# Altium integrated library Altera MAX 7000B.IntLib: 128 symbols (part 8 of 9)
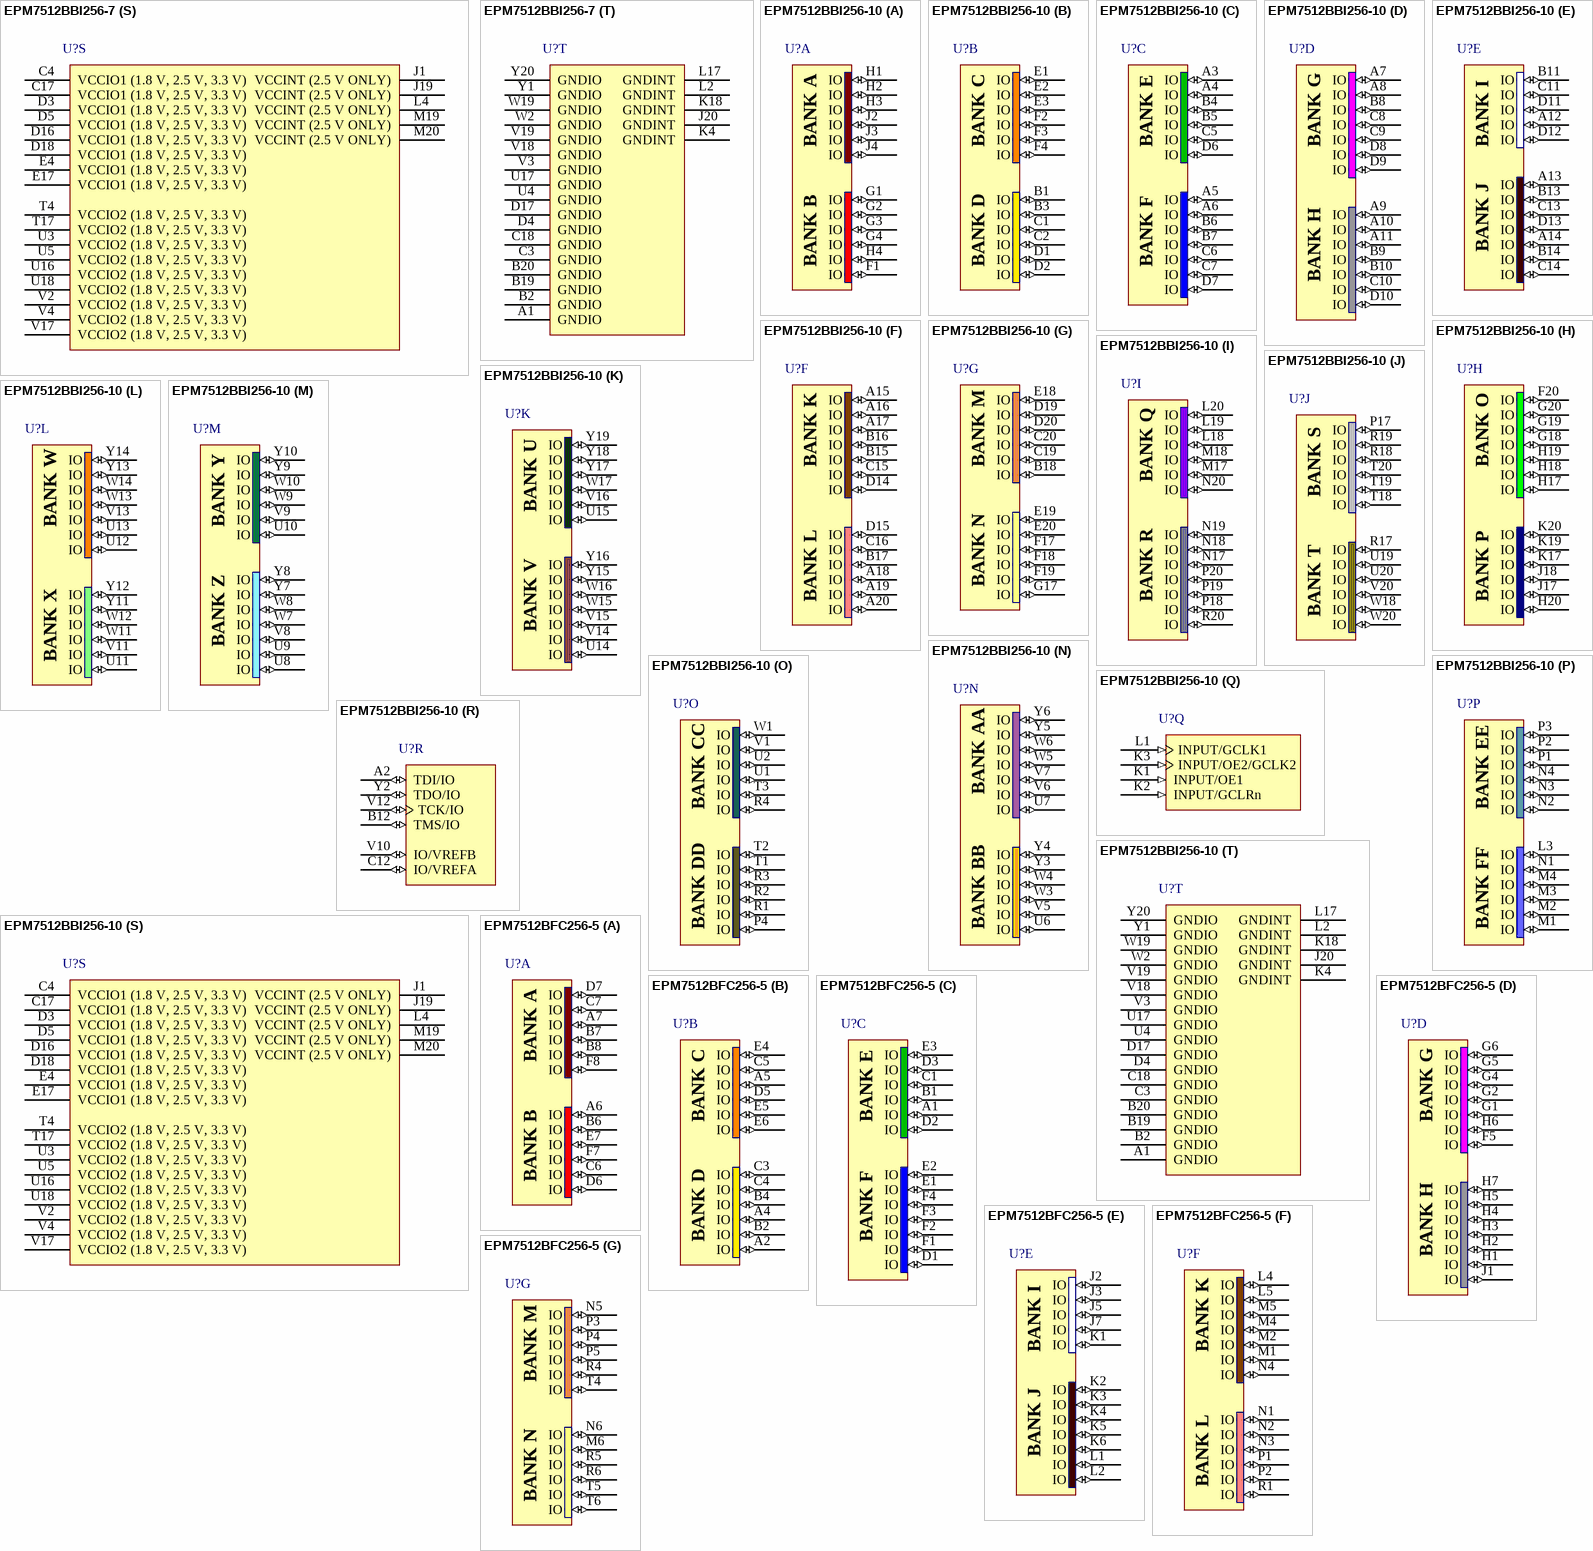
[diagram p53: symbols EPM7512BBI256-7 to EPM7512BFC256-5]

## EPM7512BBI256-10
designator U?
Max 7000B 2.5V CPLD, 512 Macrocells, 256-Pin BGA, Speed Grade 10, Industrial Grade; ComponentAvailability: Discontinued 2004, Compatible Substitute EPM7512BFI256-7; Published: 13-Apr-2006; DatasheetVersion: ver3.4, Sep-2003; PackageVersion: ver14.3, Jul-2006; PackageReference: BGA256; Publisher: Altium Limited; PackageDescription: 256-Ball Plastic Ball Grid Array (BGA256) - Option 2; Code_JEDEC: MS-034-BAL-2; ComponentLink1Description: Manufacturer Link; ComponentLink1URL: http://www.altera.com/products/devices/max7k/m7k-index.html; ComponentLink2Description: Datasheet; ComponentLink2URL: http://www.altera.com/literature/ds/m7000b.pdf; ComponentLink3Description: Packaging Specification; ComponentLink3URL: http://www.altera.com/literature/ds/dspkg.pdf; ComponentLink4Description: Discontinuation Notice; ComponentLink4URL: http://www.altera.com/literature/pcn/pdn0203.pdf
footprint BGA256 (BGA, 256-Leads, Body 27x27mm, Pitch 1.27mm)
3D model EPM7512B-BGA256 (256-Ball Plastic Ball Grid Array (BGA256) - Option 2)
signal-integrity model 7kb (MAX 7000B)
part A pins: F1 IO (io), G1 IO (io), G2 IO (io), G3 IO (io), G4 IO (io), H1 IO (io), H2 IO (io), H3 IO (io), H4 IO (io), J2 IO (io), J3 IO (io), J4 IO (io)
part B pins: B1 IO (io), B3 IO (io), C1 IO (io), C2 IO (io), D1 IO (io), D2 IO (io), E1 IO (io), E2 IO (io), E3 IO (io), F2 IO (io), F3 IO (io), F4 IO (io)
part C pins: A3 IO (io), A4 IO (io), A5 IO (io), A6 IO (io), B4 IO (io), B5 IO (io), B6 IO (io), B7 IO (io), C5 IO (io), C6 IO (io), C7 IO (io), D6 IO (io), D7 IO (io)
part D pins: A7 IO (io), A8 IO (io), A9 IO (io), A10 IO (io), A11 IO (io), B8 IO (io), B9 IO (io), B10 IO (io), C8 IO (io), C9 IO (io), C10 IO (io), D8 IO (io), D9 IO (io), D10 IO (io)
part E pins: A12 IO (io), A13 IO (io), A14 IO (io), B11 IO (io), B13 IO (io), B14 IO (io), C11 IO (io), C13 IO (io), C14 IO (io), D11 IO (io), D12 IO (io), D13 IO (io)
part F pins: A15 IO (io), A16 IO (io), A17 IO (io), A18 IO (io), A19 IO (io), A20 IO (io), B15 IO (io), B16 IO (io), B17 IO (io), C15 IO (io), C16 IO (io), D14 IO (io), D15 IO (io)
part G pins: B18 IO (io), C19 IO (io), C20 IO (io), D19 IO (io), D20 IO (io), E18 IO (io), E19 IO (io), E20 IO (io), F17 IO (io), F18 IO (io), F19 IO (io), G17 IO (io)
part H pins: F20 IO (io), G18 IO (io), G19 IO (io), G20 IO (io), H17 IO (io), H18 IO (io), H19 IO (io), H20 IO (io), J17 IO (io), J18 IO (io), K17 IO (io), K19 IO (io), K20 IO (io)
part I pins: L18 IO (io), L19 IO (io), L20 IO (io), M17 IO (io), M18 IO (io), N17 IO (io), N18 IO (io), N19 IO (io), N20 IO (io), P18 IO (io), P19 IO (io), P20 IO (io), R20 IO (io)
part J pins: P17 IO (io), R17 IO (io), R18 IO (io), R19 IO (io), T18 IO (io), T19 IO (io), T20 IO (io), U19 IO (io), U20 IO (io), V20 IO (io), W18 IO (io), W20 IO (io)
part K pins: U14 IO (io), U15 IO (io), V14 IO (io), V15 IO (io), V16 IO (io), W15 IO (io), W16 IO (io), W17 IO (io), Y15 IO (io), Y16 IO (io), Y17 IO (io), Y18 IO (io), Y19 IO (io)
part L pins: U11 IO (io), U12 IO (io), U13 IO (io), V11 IO (io), V13 IO (io), W11 IO (io), W12 IO (io), W13 IO (io), W14 IO (io), Y11 IO (io), Y12 IO (io), Y13 IO (io), Y14 IO (io)
part M pins: U8 IO (io), U9 IO (io), U10 IO (io), V8 IO (io), V9 IO (io), W7 IO (io), W8 IO (io), W9 IO (io), W10 IO (io), Y7 IO (io), Y8 IO (io), Y9 IO (io), Y10 IO (io)
part N pins: U6 IO (io), U7 IO (io), V5 IO (io), V6 IO (io), V7 IO (io), W3 IO (io), W4 IO (io), W5 IO (io), W6 IO (io), Y3 IO (io), Y4 IO (io), Y5 IO (io), Y6 IO (io)
part O pins: P4 IO (io), R1 IO (io), R2 IO (io), R3 IO (io), R4 IO (io), T1 IO (io), T2 IO (io), T3 IO (io), U1 IO (io), U2 IO (io), V1 IO (io), W1 IO (io)
part P pins: L3 IO (io), M1 IO (io), M2 IO (io), M3 IO (io), M4 IO (io), N1 IO (io), N2 IO (io), N3 IO (io), N4 IO (io), P1 IO (io), P2 IO (io), P3 IO (io)
part Q pins: K1 INPUT/OE1 (in), K2 INPUT/GCLRn (in), K3 INPUT/OE2/GCLK2 (in), L1 INPUT/GCLK1 (in)
part R pins: A2 TDI/IO (io), B12 TMS/IO (io), C12 IO/VREFA (io), V10 IO/VREFB (io), V12 TCK/IO (io), Y2 TDO/IO (io)
part S pins: C4 VCCIO1 (1.8 V, 2.5 V, 3.3 V) (power), C17 VCCIO1 (1.8 V, 2.5 V, 3.3 V) (power), D3 VCCIO1 (1.8 V, 2.5 V, 3.3 V) (power), D5 VCCIO1 (1.8 V, 2.5 V, 3.3 V) (power), D16 VCCIO1 (1.8 V, 2.5 V, 3.3 V) (power), D18 VCCIO1 (1.8 V, 2.5 V, 3.3 V) (power), E4 VCCIO1 (1.8 V, 2.5 V, 3.3 V) (power), E17 VCCIO1 (1.8 V, 2.5 V, 3.3 V) (power), J1 VCCINT (2.5 V ONLY) (power), J19 VCCINT (2.5 V ONLY) (power), L4 VCCINT (2.5 V ONLY) (power), M19 VCCINT (2.5 V ONLY) (power), M20 VCCINT (2.5 V ONLY) (power), T4 VCCIO2 (1.8 V, 2.5 V, 3.3 V) (power), T17 VCCIO2 (1.8 V, 2.5 V, 3.3 V) (power), U3 VCCIO2 (1.8 V, 2.5 V, 3.3 V) (power), U5 VCCIO2 (1.8 V, 2.5 V, 3.3 V) (power), U16 VCCIO2 (1.8 V, 2.5 V, 3.3 V) (power), U18 VCCIO2 (1.8 V, 2.5 V, 3.3 V) (power), V2 VCCIO2 (1.8 V, 2.5 V, 3.3 V) (power), V4 VCCIO2 (1.8 V, 2.5 V, 3.3 V) (power), V17 VCCIO2 (1.8 V, 2.5 V, 3.3 V) (power)
part T pins: A1 GNDIO (power), B2 GNDIO (power), B19 GNDIO (power), B20 GNDIO (power), C3 GNDIO (power), C18 GNDIO (power), D4 GNDIO (power), D17 GNDIO (power), J20 GNDINT (power), K4 GNDINT (power), K18 GNDINT (power), L2 GNDINT (power), L17 GNDINT (power), U4 GNDIO (power), U17 GNDIO (power), V3 GNDIO (power), V18 GNDIO (power), V19 GNDIO (power), W2 GNDIO (power), W19 GNDIO (power), Y1 GNDIO (power), Y20 GNDIO (power)
part A text: BANK A; BANK B
part B text: BANK C; BANK D
part C text: BANK E; BANK F
part D text: BANK G; BANK H
part E text: BANK I; BANK J
part F text: BANK K; BANK L
part G text: BANK M; BANK N
part H text: BANK O; BANK P
part I text: BANK Q; BANK R
part J text: BANK S; BANK T
part K text: BANK U; BANK V
part L text: BANK W; BANK X
part M text: BANK Y; BANK Z
part N text: BANK AA; BANK BB
part O text: BANK CC; BANK DD
part P text: BANK EE; BANK FF

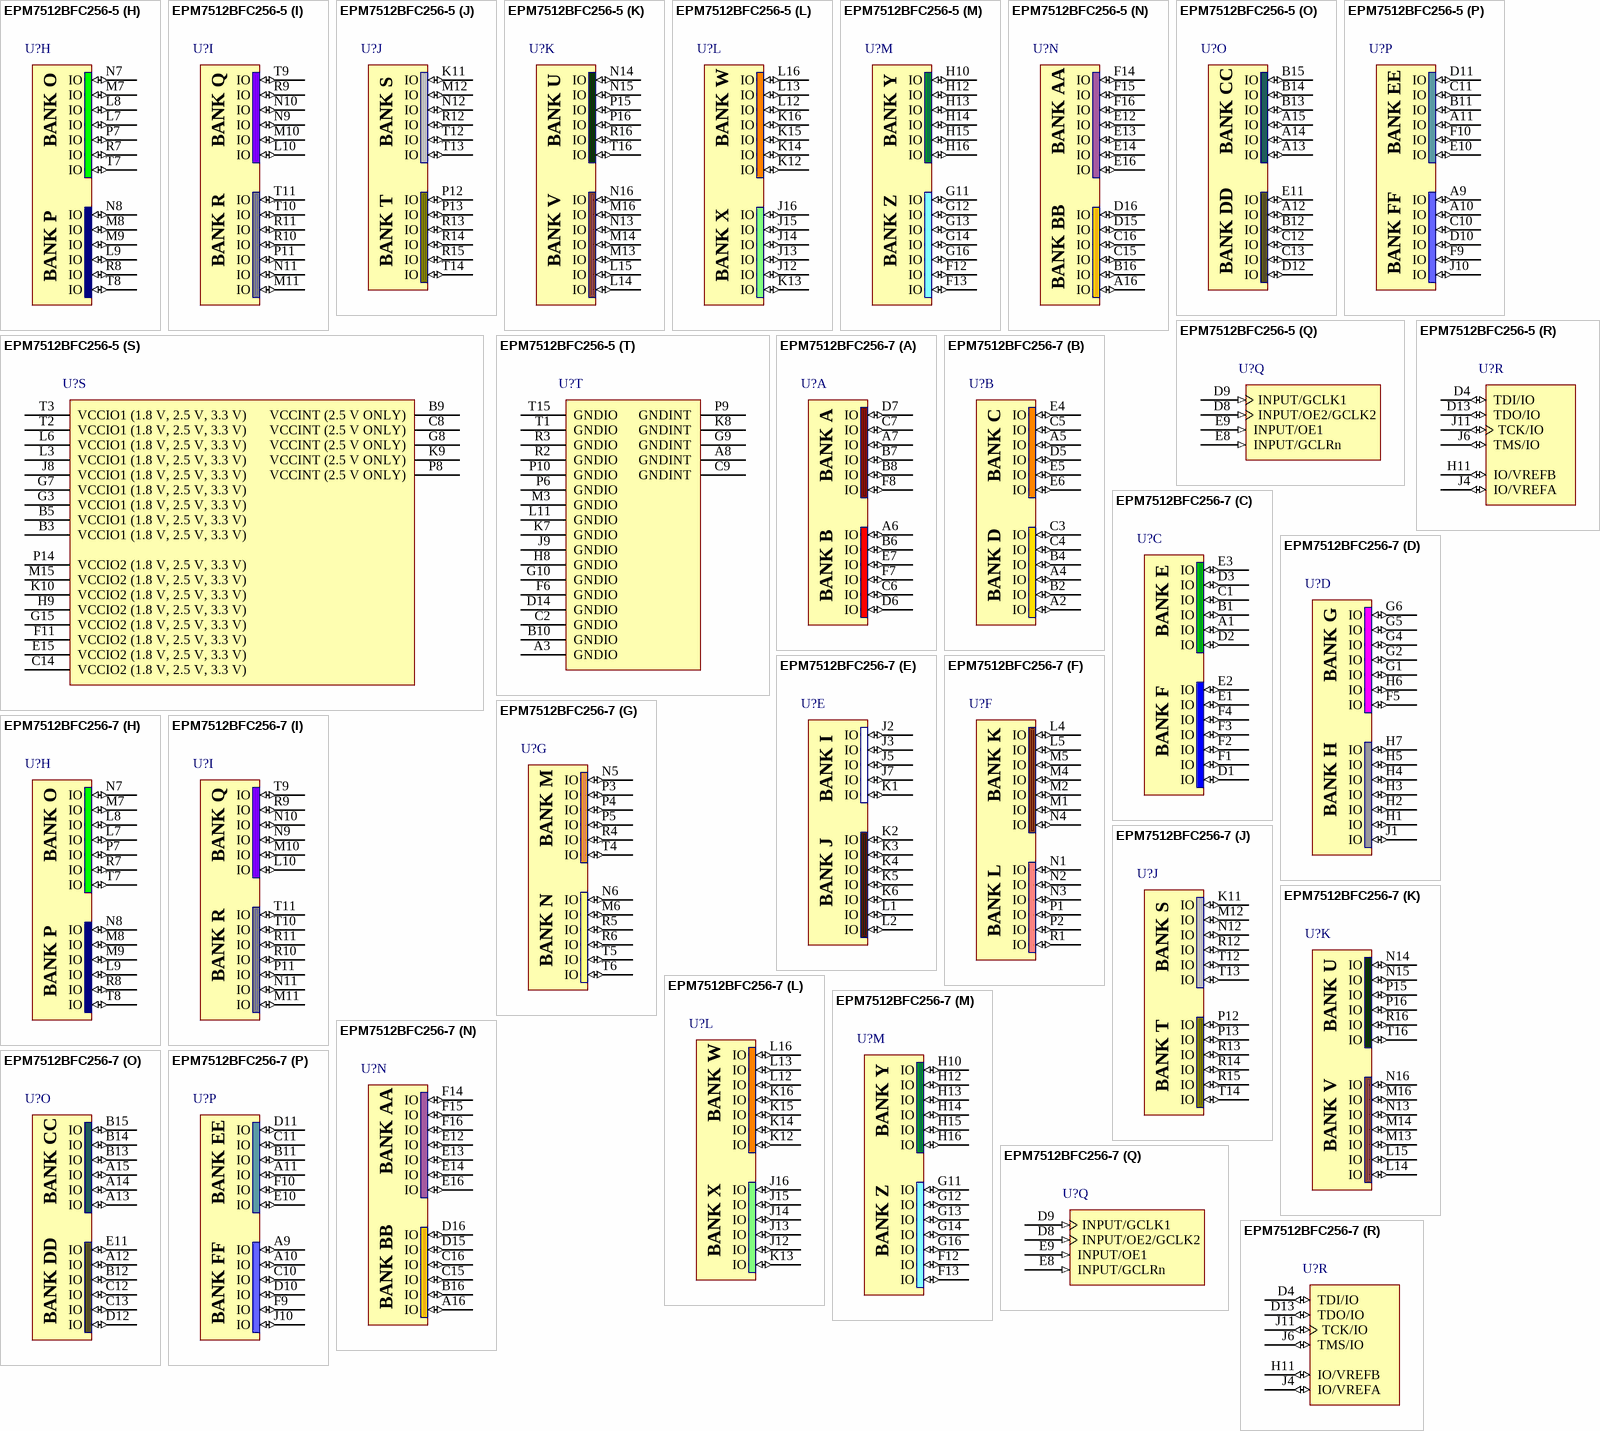
[diagram p38: symbols EPM7512BFC256-5 to EPM7512BFC256-7]

## EPM7512BFC256-5
designator U?
Max 7000B 2.5V CPLD, 512 Macrocells, 256-Pin FBGA, Speed Grade 5, Commercial Grade; Published: 17-Sep-2003; LatestRevisionDate: 13-Apr-2006; LatestRevisionNote: IPC-7351 Footprint Added.; DatasheetVersion: ver3.5, Sep-2005; PackageVersion: ver14.3, Jul-2006; PackageReference: FBGA256; Publisher: Altium Limited; PackageDescription: 256-Ball FineLine Ball Grid Array (FBGA256) - Option 1; Code_JEDEC: MS-034-AAF-1; Code_IPC: BGA100P16X16-256; ComponentLink1Description: Manufacturer Link; ComponentLink1URL: http://www.altera.com/products/devices/max7k/m7k-index.html; ComponentLink2Description: Datasheet; ComponentLink2URL: http://www.altera.com/literature/ds/m7000b.pdf; ComponentLink3Description: Packaging Specification; ComponentLink3URL: http://www.altera.com/literature/ds/dspkg.pdf
footprint FBGA256 (BGA, 256-Leads, Body 17x17mm, Pitch 1mm)
3D model EPM7512B-FBGA256 (256-Ball FineLine Ball Grid Array (FBGA256) - Option 1)
signal-integrity model 7kb (MAX 7000B)
part A pins: A6 IO (io), A7 IO (io), B6 IO (io), B7 IO (io), B8 IO (io), C6 IO (io), C7 IO (io), D6 IO (io), D7 IO (io), E7 IO (io), F7 IO (io), F8 IO (io)
part B pins: A2 IO (io), A4 IO (io), A5 IO (io), B2 IO (io), B4 IO (io), C3 IO (io), C4 IO (io), C5 IO (io), D5 IO (io), E4 IO (io), E5 IO (io), E6 IO (io)
part C pins: A1 IO (io), B1 IO (io), C1 IO (io), D1 IO (io), D2 IO (io), D3 IO (io), E1 IO (io), E2 IO (io), E3 IO (io), F1 IO (io), F2 IO (io), F3 IO (io), F4 IO (io)
part D pins: F5 IO (io), G1 IO (io), G2 IO (io), G4 IO (io), G5 IO (io), G6 IO (io), H1 IO (io), H2 IO (io), H3 IO (io), H4 IO (io), H5 IO (io), H6 IO (io), H7 IO (io), J1 IO (io)
part E pins: J2 IO (io), J3 IO (io), J5 IO (io), J7 IO (io), K1 IO (io), K2 IO (io), K3 IO (io), K4 IO (io), K5 IO (io), K6 IO (io), L1 IO (io), L2 IO (io)
part F pins: L4 IO (io), L5 IO (io), M1 IO (io), M2 IO (io), M4 IO (io), M5 IO (io), N1 IO (io), N2 IO (io), N3 IO (io), N4 IO (io), P1 IO (io), P2 IO (io), R1 IO (io)
part G pins: M6 IO (io), N5 IO (io), N6 IO (io), P3 IO (io), P4 IO (io), P5 IO (io), R4 IO (io), R5 IO (io), R6 IO (io), T4 IO (io), T5 IO (io), T6 IO (io)
part H pins: L7 IO (io), L8 IO (io), L9 IO (io), M7 IO (io), M8 IO (io), M9 IO (io), N7 IO (io), N8 IO (io), P7 IO (io), R7 IO (io), R8 IO (io), T7 IO (io), T8 IO (io)
part I pins: L10 IO (io), M10 IO (io), M11 IO (io), N9 IO (io), N10 IO (io), N11 IO (io), P11 IO (io), R9 IO (io), R10 IO (io), R11 IO (io), T9 IO (io), T10 IO (io), T11 IO (io)
part J pins: K11 IO (io), M12 IO (io), N12 IO (io), P12 IO (io), P13 IO (io), R12 IO (io), R13 IO (io), R14 IO (io), R15 IO (io), T12 IO (io), T13 IO (io), T14 IO (io)
part K pins: L14 IO (io), L15 IO (io), M13 IO (io), M14 IO (io), M16 IO (io), N13 IO (io), N14 IO (io), N15 IO (io), N16 IO (io), P15 IO (io), P16 IO (io), R16 IO (io), T16 IO (io)
part L pins: J12 IO (io), J13 IO (io), J14 IO (io), J15 IO (io), J16 IO (io), K12 IO (io), K13 IO (io), K14 IO (io), K15 IO (io), K16 IO (io), L12 IO (io), L13 IO (io), L16 IO (io)
part M pins: F12 IO (io), F13 IO (io), G11 IO (io), G12 IO (io), G13 IO (io), G14 IO (io), G16 IO (io), H10 IO (io), H12 IO (io), H13 IO (io), H14 IO (io), H15 IO (io), H16 IO (io)
part N pins: A16 IO (io), B16 IO (io), C15 IO (io), C16 IO (io), D15 IO (io), D16 IO (io), E12 IO (io), E13 IO (io), E14 IO (io), E16 IO (io), F14 IO (io), F15 IO (io), F16 IO (io)
part O pins: A12 IO (io), A13 IO (io), A14 IO (io), A15 IO (io), B12 IO (io), B13 IO (io), B14 IO (io), B15 IO (io), C12 IO (io), C13 IO (io), D12 IO (io), E11 IO (io)
part P pins: A9 IO (io), A10 IO (io), A11 IO (io), B11 IO (io), C10 IO (io), C11 IO (io), D10 IO (io), D11 IO (io), E10 IO (io), F9 IO (io), F10 IO (io), J10 IO (io)
part Q pins: D8 INPUT/OE2/GCLK2 (in), D9 INPUT/GCLK1 (in), E8 INPUT/GCLRn (in), E9 INPUT/OE1 (in)
part R pins: D4 TDI/IO (io), D13 TDO/IO (io), H11 IO/VREFB (io), J4 IO/VREFA (io), J6 TMS/IO (io), J11 TCK/IO (io)
part S pins: B3 VCCIO1 (1.8 V, 2.5 V, 3.3 V) (power), B5 VCCIO1 (1.8 V, 2.5 V, 3.3 V) (power), B9 VCCINT (2.5 V ONLY) (power), C8 VCCINT (2.5 V ONLY) (power), C14 VCCIO2 (1.8 V, 2.5 V, 3.3 V) (power), E15 VCCIO2 (1.8 V, 2.5 V, 3.3 V) (power), F11 VCCIO2 (1.8 V, 2.5 V, 3.3 V) (power), G3 VCCIO1 (1.8 V, 2.5 V, 3.3 V) (power), G7 VCCIO1 (1.8 V, 2.5 V, 3.3 V) (power), G8 VCCINT (2.5 V ONLY) (power), G15 VCCIO2 (1.8 V, 2.5 V, 3.3 V) (power), H9 VCCIO2 (1.8 V, 2.5 V, 3.3 V) (power), J8 VCCIO1 (1.8 V, 2.5 V, 3.3 V) (power), K9 VCCINT (2.5 V ONLY) (power), K10 VCCIO2 (1.8 V, 2.5 V, 3.3 V) (power), L3 VCCIO1 (1.8 V, 2.5 V, 3.3 V) (power), L6 VCCIO1 (1.8 V, 2.5 V, 3.3 V) (power), M15 VCCIO2 (1.8 V, 2.5 V, 3.3 V) (power), P8 VCCINT (2.5 V ONLY) (power), P14 VCCIO2 (1.8 V, 2.5 V, 3.3 V) (power), T2 VCCIO1 (1.8 V, 2.5 V, 3.3 V) (power), T3 VCCIO1 (1.8 V, 2.5 V, 3.3 V) (power)
part T pins: A3 GNDIO (power), A8 GNDINT (power), B10 GNDIO (power), C2 GNDIO (power), C9 GNDINT (power), D14 GNDIO (power), F6 GNDIO (power), G9 GNDINT (power), G10 GNDIO (power), H8 GNDIO (power), J9 GNDIO (power), K7 GNDIO (power), K8 GNDINT (power), L11 GNDIO (power), M3 GNDIO (power), P6 GNDIO (power), P9 GNDINT (power), P10 GNDIO (power), R2 GNDIO (power), R3 GNDIO (power), T1 GNDIO (power), T15 GNDIO (power)
part A text: BANK A; BANK B
part B text: BANK C; BANK D
part C text: BANK E; BANK F
part D text: BANK G; BANK H
part E text: BANK I; BANK J
part F text: BANK K; BANK L
part G text: BANK M; BANK N
part H text: BANK O; BANK P
part I text: BANK Q; BANK R
part J text: BANK S; BANK T
part K text: BANK U; BANK V
part L text: BANK W; BANK X
part M text: BANK Y; BANK Z
part N text: BANK AA; BANK BB
part O text: BANK CC; BANK DD
part P text: BANK EE; BANK FF

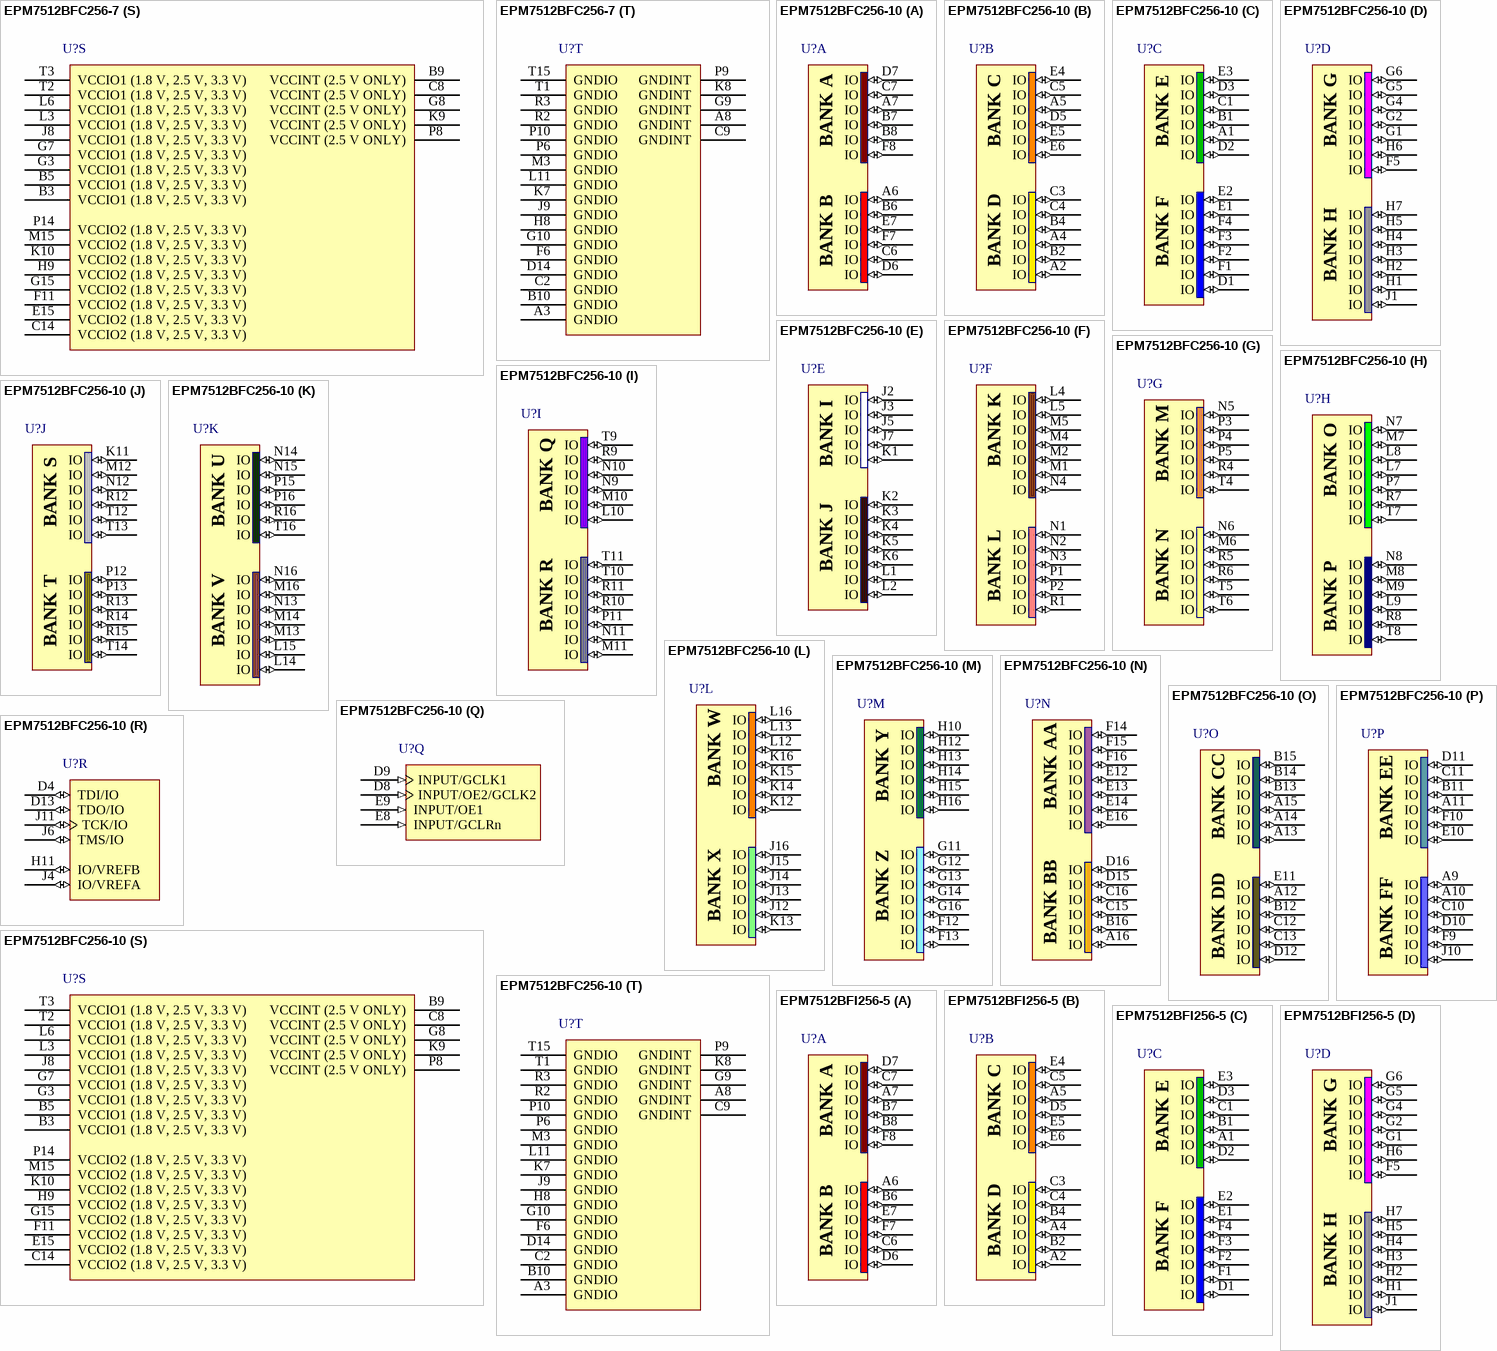
[diagram p39: symbols EPM7512BFC256-7 to EPM7512BFI256-5]

## EPM7512BFC256-7
designator U?
Max 7000B 2.5V CPLD, 512 Macrocells, 256-Pin FBGA, Speed Grade 7, Commercial Grade; Published: 23-Sep-2002; LatestRevisionDate: 13-Apr-2006; LatestRevisionNote: IPC-7351 Footprint Added.; DatasheetVersion: ver3.5, Sep-2005; PackageVersion: ver14.3, Jul-2006; PackageReference: FBGA256; Publisher: Altium Limited; PackageDescription: 256-Ball FineLine Ball Grid Array (FBGA256) - Option 1; Code_JEDEC: MS-034-AAF-1; Code_IPC: BGA100P16X16-256; ComponentLink1Description: Manufacturer Link; ComponentLink1URL: http://www.altera.com/products/devices/max7k/m7k-index.html; ComponentLink2Description: Datasheet; ComponentLink2URL: http://www.altera.com/literature/ds/m7000b.pdf; ComponentLink3Description: Packaging Specification; ComponentLink3URL: http://www.altera.com/literature/ds/dspkg.pdf
footprint FBGA256 (BGA, 256-Leads, Body 17x17mm, Pitch 1mm)
3D model EPM7512B-FBGA256 (256-Ball FineLine Ball Grid Array (FBGA256) - Option 1)
signal-integrity model 7kb (MAX 7000B)
part A pins: A6 IO (io), A7 IO (io), B6 IO (io), B7 IO (io), B8 IO (io), C6 IO (io), C7 IO (io), D6 IO (io), D7 IO (io), E7 IO (io), F7 IO (io), F8 IO (io)
part B pins: A2 IO (io), A4 IO (io), A5 IO (io), B2 IO (io), B4 IO (io), C3 IO (io), C4 IO (io), C5 IO (io), D5 IO (io), E4 IO (io), E5 IO (io), E6 IO (io)
part C pins: A1 IO (io), B1 IO (io), C1 IO (io), D1 IO (io), D2 IO (io), D3 IO (io), E1 IO (io), E2 IO (io), E3 IO (io), F1 IO (io), F2 IO (io), F3 IO (io), F4 IO (io)
part D pins: F5 IO (io), G1 IO (io), G2 IO (io), G4 IO (io), G5 IO (io), G6 IO (io), H1 IO (io), H2 IO (io), H3 IO (io), H4 IO (io), H5 IO (io), H6 IO (io), H7 IO (io), J1 IO (io)
part E pins: J2 IO (io), J3 IO (io), J5 IO (io), J7 IO (io), K1 IO (io), K2 IO (io), K3 IO (io), K4 IO (io), K5 IO (io), K6 IO (io), L1 IO (io), L2 IO (io)
part F pins: L4 IO (io), L5 IO (io), M1 IO (io), M2 IO (io), M4 IO (io), M5 IO (io), N1 IO (io), N2 IO (io), N3 IO (io), N4 IO (io), P1 IO (io), P2 IO (io), R1 IO (io)
part G pins: M6 IO (io), N5 IO (io), N6 IO (io), P3 IO (io), P4 IO (io), P5 IO (io), R4 IO (io), R5 IO (io), R6 IO (io), T4 IO (io), T5 IO (io), T6 IO (io)
part H pins: L7 IO (io), L8 IO (io), L9 IO (io), M7 IO (io), M8 IO (io), M9 IO (io), N7 IO (io), N8 IO (io), P7 IO (io), R7 IO (io), R8 IO (io), T7 IO (io), T8 IO (io)
part I pins: L10 IO (io), M10 IO (io), M11 IO (io), N9 IO (io), N10 IO (io), N11 IO (io), P11 IO (io), R9 IO (io), R10 IO (io), R11 IO (io), T9 IO (io), T10 IO (io), T11 IO (io)
part J pins: K11 IO (io), M12 IO (io), N12 IO (io), P12 IO (io), P13 IO (io), R12 IO (io), R13 IO (io), R14 IO (io), R15 IO (io), T12 IO (io), T13 IO (io), T14 IO (io)
part K pins: L14 IO (io), L15 IO (io), M13 IO (io), M14 IO (io), M16 IO (io), N13 IO (io), N14 IO (io), N15 IO (io), N16 IO (io), P15 IO (io), P16 IO (io), R16 IO (io), T16 IO (io)
part L pins: J12 IO (io), J13 IO (io), J14 IO (io), J15 IO (io), J16 IO (io), K12 IO (io), K13 IO (io), K14 IO (io), K15 IO (io), K16 IO (io), L12 IO (io), L13 IO (io), L16 IO (io)
part M pins: F12 IO (io), F13 IO (io), G11 IO (io), G12 IO (io), G13 IO (io), G14 IO (io), G16 IO (io), H10 IO (io), H12 IO (io), H13 IO (io), H14 IO (io), H15 IO (io), H16 IO (io)
part N pins: A16 IO (io), B16 IO (io), C15 IO (io), C16 IO (io), D15 IO (io), D16 IO (io), E12 IO (io), E13 IO (io), E14 IO (io), E16 IO (io), F14 IO (io), F15 IO (io), F16 IO (io)
part O pins: A12 IO (io), A13 IO (io), A14 IO (io), A15 IO (io), B12 IO (io), B13 IO (io), B14 IO (io), B15 IO (io), C12 IO (io), C13 IO (io), D12 IO (io), E11 IO (io)
part P pins: A9 IO (io), A10 IO (io), A11 IO (io), B11 IO (io), C10 IO (io), C11 IO (io), D10 IO (io), D11 IO (io), E10 IO (io), F9 IO (io), F10 IO (io), J10 IO (io)
part Q pins: D8 INPUT/OE2/GCLK2 (in), D9 INPUT/GCLK1 (in), E8 INPUT/GCLRn (in), E9 INPUT/OE1 (in)
part R pins: D4 TDI/IO (io), D13 TDO/IO (io), H11 IO/VREFB (io), J4 IO/VREFA (io), J6 TMS/IO (io), J11 TCK/IO (io)
part S pins: B3 VCCIO1 (1.8 V, 2.5 V, 3.3 V) (power), B5 VCCIO1 (1.8 V, 2.5 V, 3.3 V) (power), B9 VCCINT (2.5 V ONLY) (power), C8 VCCINT (2.5 V ONLY) (power), C14 VCCIO2 (1.8 V, 2.5 V, 3.3 V) (power), E15 VCCIO2 (1.8 V, 2.5 V, 3.3 V) (power), F11 VCCIO2 (1.8 V, 2.5 V, 3.3 V) (power), G3 VCCIO1 (1.8 V, 2.5 V, 3.3 V) (power), G7 VCCIO1 (1.8 V, 2.5 V, 3.3 V) (power), G8 VCCINT (2.5 V ONLY) (power), G15 VCCIO2 (1.8 V, 2.5 V, 3.3 V) (power), H9 VCCIO2 (1.8 V, 2.5 V, 3.3 V) (power), J8 VCCIO1 (1.8 V, 2.5 V, 3.3 V) (power), K9 VCCINT (2.5 V ONLY) (power), K10 VCCIO2 (1.8 V, 2.5 V, 3.3 V) (power), L3 VCCIO1 (1.8 V, 2.5 V, 3.3 V) (power), L6 VCCIO1 (1.8 V, 2.5 V, 3.3 V) (power), M15 VCCIO2 (1.8 V, 2.5 V, 3.3 V) (power), P8 VCCINT (2.5 V ONLY) (power), P14 VCCIO2 (1.8 V, 2.5 V, 3.3 V) (power), T2 VCCIO1 (1.8 V, 2.5 V, 3.3 V) (power), T3 VCCIO1 (1.8 V, 2.5 V, 3.3 V) (power)
part T pins: A3 GNDIO (power), A8 GNDINT (power), B10 GNDIO (power), C2 GNDIO (power), C9 GNDINT (power), D14 GNDIO (power), F6 GNDIO (power), G9 GNDINT (power), G10 GNDIO (power), H8 GNDIO (power), J9 GNDIO (power), K7 GNDIO (power), K8 GNDINT (power), L11 GNDIO (power), M3 GNDIO (power), P6 GNDIO (power), P9 GNDINT (power), P10 GNDIO (power), R2 GNDIO (power), R3 GNDIO (power), T1 GNDIO (power), T15 GNDIO (power)
part A text: BANK A; BANK B
part B text: BANK C; BANK D
part C text: BANK E; BANK F
part D text: BANK G; BANK H
part E text: BANK I; BANK J
part F text: BANK K; BANK L
part G text: BANK M; BANK N
part H text: BANK O; BANK P
part I text: BANK Q; BANK R
part J text: BANK S; BANK T
part K text: BANK U; BANK V
part L text: BANK W; BANK X
part M text: BANK Y; BANK Z
part N text: BANK AA; BANK BB
part O text: BANK CC; BANK DD
part P text: BANK EE; BANK FF

## EPM7512BFC256-10
designator U?
Max 7000B 2.5V CPLD, 512 Macrocells, 256-Pin FBGA, Speed Grade 10, Commercial Grade; Published: 23-Sep-2002; LatestRevisionDate: 13-Apr-2006; LatestRevisionNote: IPC-7351 Footprint Added.; DatasheetVersion: ver3.5, Sep-2005; PackageVersion: ver14.3, Jul-2006; PackageReference: FBGA256; Publisher: Altium Limited; PackageDescription: 256-Ball FineLine Ball Grid Array (FBGA256) - Option 1; Code_JEDEC: MS-034-AAF-1; Code_IPC: BGA100P16X16-256; ComponentLink1Description: Manufacturer Link; ComponentLink1URL: http://www.altera.com/products/devices/max7k/m7k-index.html; ComponentLink2Description: Datasheet; ComponentLink2URL: http://www.altera.com/literature/ds/m7000b.pdf; ComponentLink3Description: Packaging Specification; ComponentLink3URL: http://www.altera.com/literature/ds/dspkg.pdf
footprint FBGA256 (BGA, 256-Leads, Body 17x17mm, Pitch 1mm)
3D model EPM7512B-FBGA256 (256-Ball FineLine Ball Grid Array (FBGA256) - Option 1)
signal-integrity model 7kb (MAX 7000B)
part A pins: A6 IO (io), A7 IO (io), B6 IO (io), B7 IO (io), B8 IO (io), C6 IO (io), C7 IO (io), D6 IO (io), D7 IO (io), E7 IO (io), F7 IO (io), F8 IO (io)
part B pins: A2 IO (io), A4 IO (io), A5 IO (io), B2 IO (io), B4 IO (io), C3 IO (io), C4 IO (io), C5 IO (io), D5 IO (io), E4 IO (io), E5 IO (io), E6 IO (io)
part C pins: A1 IO (io), B1 IO (io), C1 IO (io), D1 IO (io), D2 IO (io), D3 IO (io), E1 IO (io), E2 IO (io), E3 IO (io), F1 IO (io), F2 IO (io), F3 IO (io), F4 IO (io)
part D pins: F5 IO (io), G1 IO (io), G2 IO (io), G4 IO (io), G5 IO (io), G6 IO (io), H1 IO (io), H2 IO (io), H3 IO (io), H4 IO (io), H5 IO (io), H6 IO (io), H7 IO (io), J1 IO (io)
part E pins: J2 IO (io), J3 IO (io), J5 IO (io), J7 IO (io), K1 IO (io), K2 IO (io), K3 IO (io), K4 IO (io), K5 IO (io), K6 IO (io), L1 IO (io), L2 IO (io)
part F pins: L4 IO (io), L5 IO (io), M1 IO (io), M2 IO (io), M4 IO (io), M5 IO (io), N1 IO (io), N2 IO (io), N3 IO (io), N4 IO (io), P1 IO (io), P2 IO (io), R1 IO (io)
part G pins: M6 IO (io), N5 IO (io), N6 IO (io), P3 IO (io), P4 IO (io), P5 IO (io), R4 IO (io), R5 IO (io), R6 IO (io), T4 IO (io), T5 IO (io), T6 IO (io)
part H pins: L7 IO (io), L8 IO (io), L9 IO (io), M7 IO (io), M8 IO (io), M9 IO (io), N7 IO (io), N8 IO (io), P7 IO (io), R7 IO (io), R8 IO (io), T7 IO (io), T8 IO (io)
part I pins: L10 IO (io), M10 IO (io), M11 IO (io), N9 IO (io), N10 IO (io), N11 IO (io), P11 IO (io), R9 IO (io), R10 IO (io), R11 IO (io), T9 IO (io), T10 IO (io), T11 IO (io)
part J pins: K11 IO (io), M12 IO (io), N12 IO (io), P12 IO (io), P13 IO (io), R12 IO (io), R13 IO (io), R14 IO (io), R15 IO (io), T12 IO (io), T13 IO (io), T14 IO (io)
part K pins: L14 IO (io), L15 IO (io), M13 IO (io), M14 IO (io), M16 IO (io), N13 IO (io), N14 IO (io), N15 IO (io), N16 IO (io), P15 IO (io), P16 IO (io), R16 IO (io), T16 IO (io)
part L pins: J12 IO (io), J13 IO (io), J14 IO (io), J15 IO (io), J16 IO (io), K12 IO (io), K13 IO (io), K14 IO (io), K15 IO (io), K16 IO (io), L12 IO (io), L13 IO (io), L16 IO (io)
part M pins: F12 IO (io), F13 IO (io), G11 IO (io), G12 IO (io), G13 IO (io), G14 IO (io), G16 IO (io), H10 IO (io), H12 IO (io), H13 IO (io), H14 IO (io), H15 IO (io), H16 IO (io)
part N pins: A16 IO (io), B16 IO (io), C15 IO (io), C16 IO (io), D15 IO (io), D16 IO (io), E12 IO (io), E13 IO (io), E14 IO (io), E16 IO (io), F14 IO (io), F15 IO (io), F16 IO (io)
part O pins: A12 IO (io), A13 IO (io), A14 IO (io), A15 IO (io), B12 IO (io), B13 IO (io), B14 IO (io), B15 IO (io), C12 IO (io), C13 IO (io), D12 IO (io), E11 IO (io)
part P pins: A9 IO (io), A10 IO (io), A11 IO (io), B11 IO (io), C10 IO (io), C11 IO (io), D10 IO (io), D11 IO (io), E10 IO (io), F9 IO (io), F10 IO (io), J10 IO (io)
part Q pins: D8 INPUT/OE2/GCLK2 (in), D9 INPUT/GCLK1 (in), E8 INPUT/GCLRn (in), E9 INPUT/OE1 (in)
part R pins: D4 TDI/IO (io), D13 TDO/IO (io), H11 IO/VREFB (io), J4 IO/VREFA (io), J6 TMS/IO (io), J11 TCK/IO (io)
part S pins: B3 VCCIO1 (1.8 V, 2.5 V, 3.3 V) (power), B5 VCCIO1 (1.8 V, 2.5 V, 3.3 V) (power), B9 VCCINT (2.5 V ONLY) (power), C8 VCCINT (2.5 V ONLY) (power), C14 VCCIO2 (1.8 V, 2.5 V, 3.3 V) (power), E15 VCCIO2 (1.8 V, 2.5 V, 3.3 V) (power), F11 VCCIO2 (1.8 V, 2.5 V, 3.3 V) (power), G3 VCCIO1 (1.8 V, 2.5 V, 3.3 V) (power), G7 VCCIO1 (1.8 V, 2.5 V, 3.3 V) (power), G8 VCCINT (2.5 V ONLY) (power), G15 VCCIO2 (1.8 V, 2.5 V, 3.3 V) (power), H9 VCCIO2 (1.8 V, 2.5 V, 3.3 V) (power), J8 VCCIO1 (1.8 V, 2.5 V, 3.3 V) (power), K9 VCCINT (2.5 V ONLY) (power), K10 VCCIO2 (1.8 V, 2.5 V, 3.3 V) (power), L3 VCCIO1 (1.8 V, 2.5 V, 3.3 V) (power), L6 VCCIO1 (1.8 V, 2.5 V, 3.3 V) (power), M15 VCCIO2 (1.8 V, 2.5 V, 3.3 V) (power), P8 VCCINT (2.5 V ONLY) (power), P14 VCCIO2 (1.8 V, 2.5 V, 3.3 V) (power), T2 VCCIO1 (1.8 V, 2.5 V, 3.3 V) (power), T3 VCCIO1 (1.8 V, 2.5 V, 3.3 V) (power)
part T pins: A3 GNDIO (power), A8 GNDINT (power), B10 GNDIO (power), C2 GNDIO (power), C9 GNDINT (power), D14 GNDIO (power), F6 GNDIO (power), G9 GNDINT (power), G10 GNDIO (power), H8 GNDIO (power), J9 GNDIO (power), K7 GNDIO (power), K8 GNDINT (power), L11 GNDIO (power), M3 GNDIO (power), P6 GNDIO (power), P9 GNDINT (power), P10 GNDIO (power), R2 GNDIO (power), R3 GNDIO (power), T1 GNDIO (power), T15 GNDIO (power)
part A text: BANK A; BANK B
part B text: BANK C; BANK D
part C text: BANK E; BANK F
part D text: BANK G; BANK H
part E text: BANK I; BANK J
part F text: BANK K; BANK L
part G text: BANK M; BANK N
part H text: BANK O; BANK P
part I text: BANK Q; BANK R
part J text: BANK S; BANK T
part K text: BANK U; BANK V
part L text: BANK W; BANK X
part M text: BANK Y; BANK Z
part N text: BANK AA; BANK BB
part O text: BANK CC; BANK DD
part P text: BANK EE; BANK FF

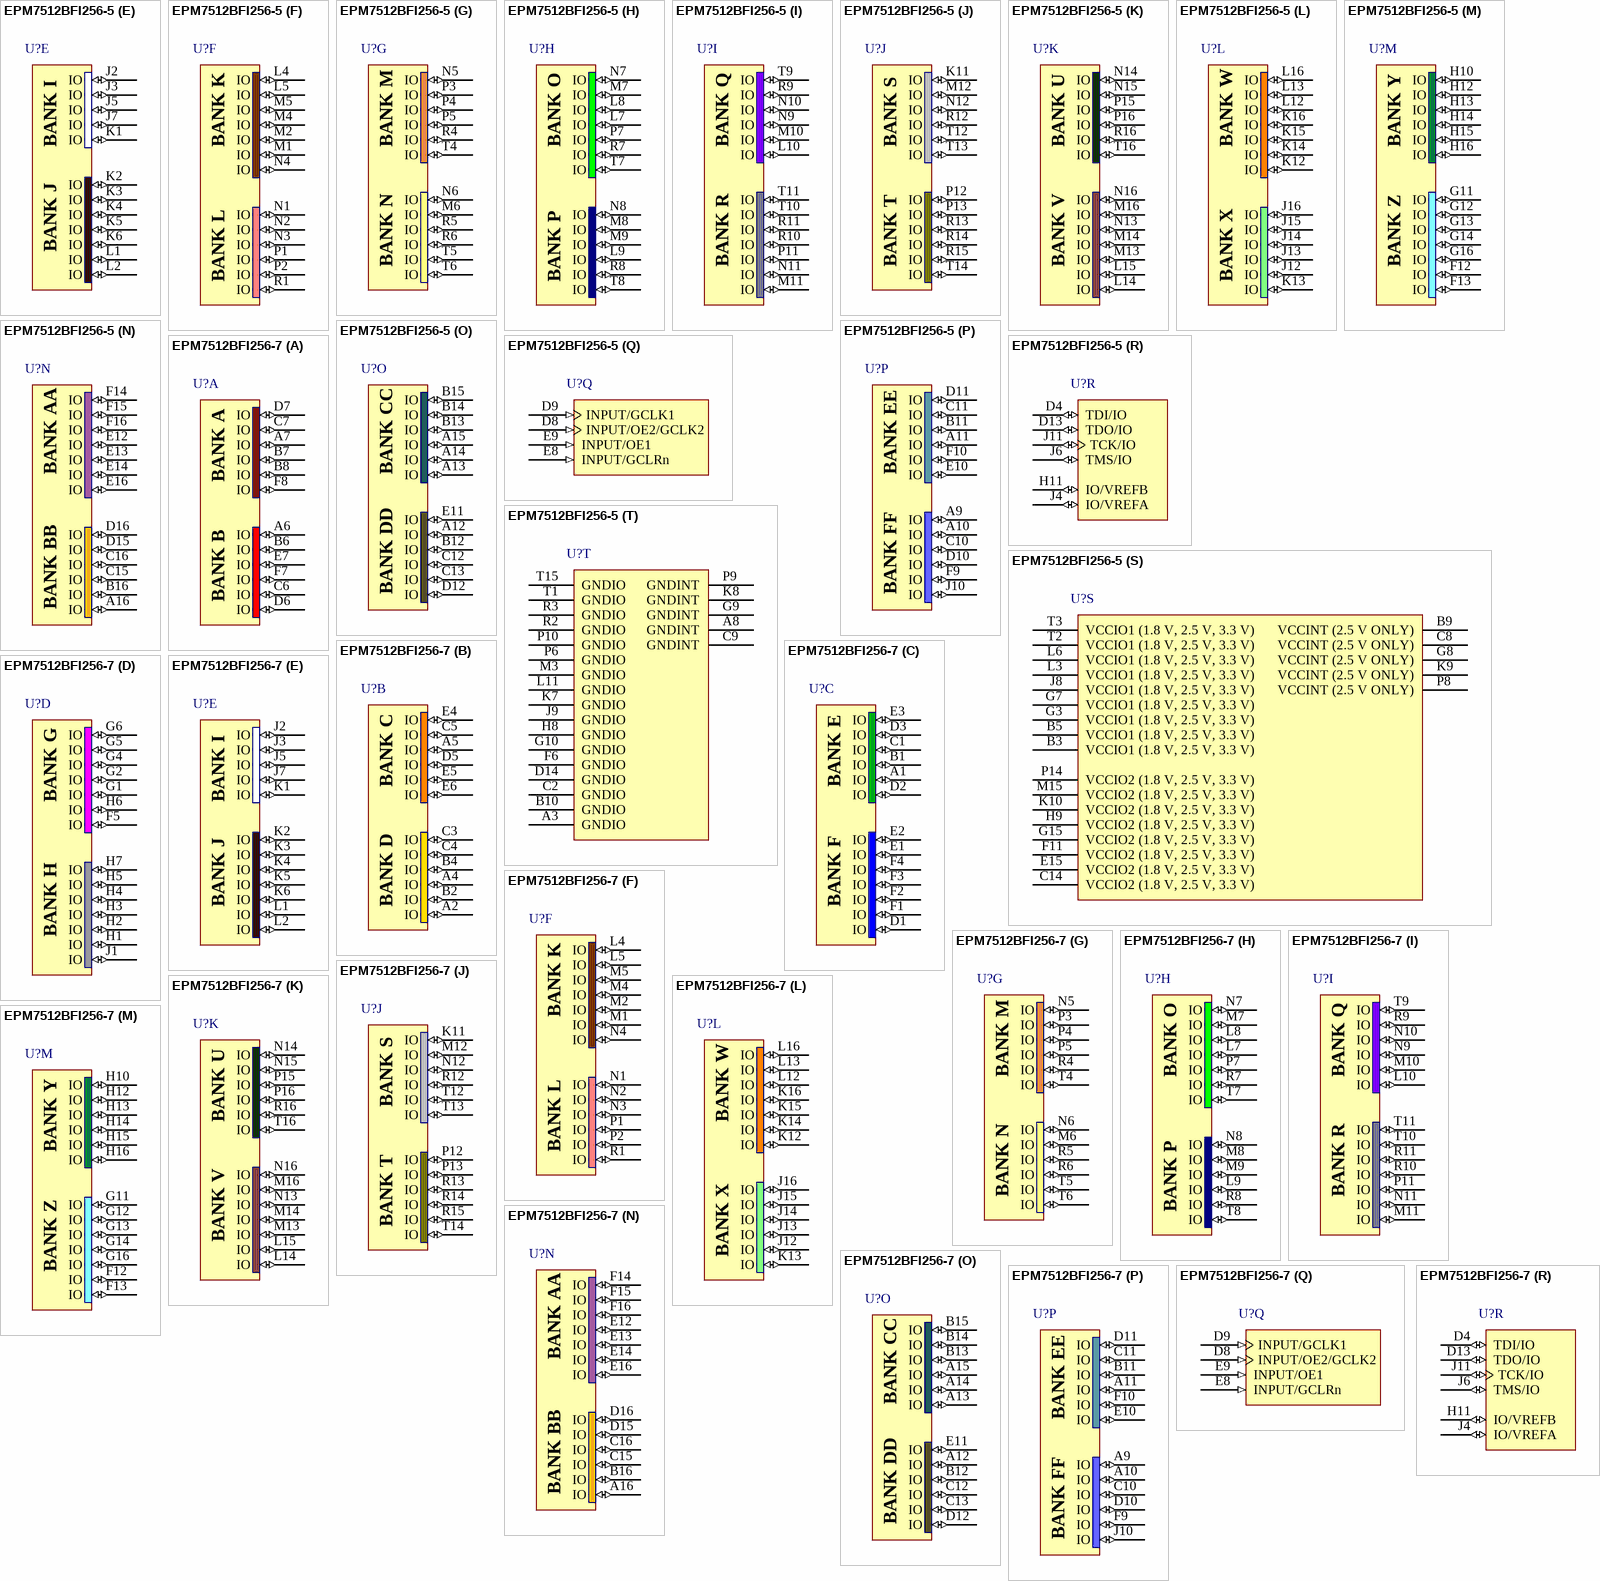
[diagram p40: symbols EPM7512BFI256-5 to EPM7512BFI256-7]

## EPM7512BFI256-5
designator U?
Max 7000B 2.5V CPLD, 512 Macrocells, 256-Pin FBGA, Speed Grade 5, Industrial Grade; Published: 13-Apr-2006; DatasheetVersion: ver3.5, Sep-2005; PackageVersion: ver14.3, Jul-2006; PackageReference: FBGA256; Publisher: Altium Limited; PackageDescription: 256-Ball FineLine Ball Grid Array (FBGA256) - Option 1; Code_JEDEC: MS-034-AAF-1; Code_IPC: BGA100P16X16-256; ComponentLink1Description: Manufacturer Link; ComponentLink1URL: http://www.altera.com/products/devices/max7k/m7k-index.html; ComponentLink2Description: Datasheet; ComponentLink2URL: http://www.altera.com/literature/ds/m7000b.pdf; ComponentLink3Description: Packaging Specification; ComponentLink3URL: http://www.altera.com/literature/ds/dspkg.pdf
footprint FBGA256 (BGA, 256-Leads, Body 17x17mm, Pitch 1mm)
3D model EPM7512B-FBGA256 (256-Ball FineLine Ball Grid Array (FBGA256) - Option 1)
signal-integrity model 7kb (MAX 7000B)
part A pins: A6 IO (io), A7 IO (io), B6 IO (io), B7 IO (io), B8 IO (io), C6 IO (io), C7 IO (io), D6 IO (io), D7 IO (io), E7 IO (io), F7 IO (io), F8 IO (io)
part B pins: A2 IO (io), A4 IO (io), A5 IO (io), B2 IO (io), B4 IO (io), C3 IO (io), C4 IO (io), C5 IO (io), D5 IO (io), E4 IO (io), E5 IO (io), E6 IO (io)
part C pins: A1 IO (io), B1 IO (io), C1 IO (io), D1 IO (io), D2 IO (io), D3 IO (io), E1 IO (io), E2 IO (io), E3 IO (io), F1 IO (io), F2 IO (io), F3 IO (io), F4 IO (io)
part D pins: F5 IO (io), G1 IO (io), G2 IO (io), G4 IO (io), G5 IO (io), G6 IO (io), H1 IO (io), H2 IO (io), H3 IO (io), H4 IO (io), H5 IO (io), H6 IO (io), H7 IO (io), J1 IO (io)
part E pins: J2 IO (io), J3 IO (io), J5 IO (io), J7 IO (io), K1 IO (io), K2 IO (io), K3 IO (io), K4 IO (io), K5 IO (io), K6 IO (io), L1 IO (io), L2 IO (io)
part F pins: L4 IO (io), L5 IO (io), M1 IO (io), M2 IO (io), M4 IO (io), M5 IO (io), N1 IO (io), N2 IO (io), N3 IO (io), N4 IO (io), P1 IO (io), P2 IO (io), R1 IO (io)
part G pins: M6 IO (io), N5 IO (io), N6 IO (io), P3 IO (io), P4 IO (io), P5 IO (io), R4 IO (io), R5 IO (io), R6 IO (io), T4 IO (io), T5 IO (io), T6 IO (io)
part H pins: L7 IO (io), L8 IO (io), L9 IO (io), M7 IO (io), M8 IO (io), M9 IO (io), N7 IO (io), N8 IO (io), P7 IO (io), R7 IO (io), R8 IO (io), T7 IO (io), T8 IO (io)
part I pins: L10 IO (io), M10 IO (io), M11 IO (io), N9 IO (io), N10 IO (io), N11 IO (io), P11 IO (io), R9 IO (io), R10 IO (io), R11 IO (io), T9 IO (io), T10 IO (io), T11 IO (io)
part J pins: K11 IO (io), M12 IO (io), N12 IO (io), P12 IO (io), P13 IO (io), R12 IO (io), R13 IO (io), R14 IO (io), R15 IO (io), T12 IO (io), T13 IO (io), T14 IO (io)
part K pins: L14 IO (io), L15 IO (io), M13 IO (io), M14 IO (io), M16 IO (io), N13 IO (io), N14 IO (io), N15 IO (io), N16 IO (io), P15 IO (io), P16 IO (io), R16 IO (io), T16 IO (io)
part L pins: J12 IO (io), J13 IO (io), J14 IO (io), J15 IO (io), J16 IO (io), K12 IO (io), K13 IO (io), K14 IO (io), K15 IO (io), K16 IO (io), L12 IO (io), L13 IO (io), L16 IO (io)
part M pins: F12 IO (io), F13 IO (io), G11 IO (io), G12 IO (io), G13 IO (io), G14 IO (io), G16 IO (io), H10 IO (io), H12 IO (io), H13 IO (io), H14 IO (io), H15 IO (io), H16 IO (io)
part N pins: A16 IO (io), B16 IO (io), C15 IO (io), C16 IO (io), D15 IO (io), D16 IO (io), E12 IO (io), E13 IO (io), E14 IO (io), E16 IO (io), F14 IO (io), F15 IO (io), F16 IO (io)
part O pins: A12 IO (io), A13 IO (io), A14 IO (io), A15 IO (io), B12 IO (io), B13 IO (io), B14 IO (io), B15 IO (io), C12 IO (io), C13 IO (io), D12 IO (io), E11 IO (io)
part P pins: A9 IO (io), A10 IO (io), A11 IO (io), B11 IO (io), C10 IO (io), C11 IO (io), D10 IO (io), D11 IO (io), E10 IO (io), F9 IO (io), F10 IO (io), J10 IO (io)
part Q pins: D8 INPUT/OE2/GCLK2 (in), D9 INPUT/GCLK1 (in), E8 INPUT/GCLRn (in), E9 INPUT/OE1 (in)
part R pins: D4 TDI/IO (io), D13 TDO/IO (io), H11 IO/VREFB (io), J4 IO/VREFA (io), J6 TMS/IO (io), J11 TCK/IO (io)
part S pins: B3 VCCIO1 (1.8 V, 2.5 V, 3.3 V) (power), B5 VCCIO1 (1.8 V, 2.5 V, 3.3 V) (power), B9 VCCINT (2.5 V ONLY) (power), C8 VCCINT (2.5 V ONLY) (power), C14 VCCIO2 (1.8 V, 2.5 V, 3.3 V) (power), E15 VCCIO2 (1.8 V, 2.5 V, 3.3 V) (power), F11 VCCIO2 (1.8 V, 2.5 V, 3.3 V) (power), G3 VCCIO1 (1.8 V, 2.5 V, 3.3 V) (power), G7 VCCIO1 (1.8 V, 2.5 V, 3.3 V) (power), G8 VCCINT (2.5 V ONLY) (power), G15 VCCIO2 (1.8 V, 2.5 V, 3.3 V) (power), H9 VCCIO2 (1.8 V, 2.5 V, 3.3 V) (power), J8 VCCIO1 (1.8 V, 2.5 V, 3.3 V) (power), K9 VCCINT (2.5 V ONLY) (power), K10 VCCIO2 (1.8 V, 2.5 V, 3.3 V) (power), L3 VCCIO1 (1.8 V, 2.5 V, 3.3 V) (power), L6 VCCIO1 (1.8 V, 2.5 V, 3.3 V) (power), M15 VCCIO2 (1.8 V, 2.5 V, 3.3 V) (power), P8 VCCINT (2.5 V ONLY) (power), P14 VCCIO2 (1.8 V, 2.5 V, 3.3 V) (power), T2 VCCIO1 (1.8 V, 2.5 V, 3.3 V) (power), T3 VCCIO1 (1.8 V, 2.5 V, 3.3 V) (power)
part T pins: A3 GNDIO (power), A8 GNDINT (power), B10 GNDIO (power), C2 GNDIO (power), C9 GNDINT (power), D14 GNDIO (power), F6 GNDIO (power), G9 GNDINT (power), G10 GNDIO (power), H8 GNDIO (power), J9 GNDIO (power), K7 GNDIO (power), K8 GNDINT (power), L11 GNDIO (power), M3 GNDIO (power), P6 GNDIO (power), P9 GNDINT (power), P10 GNDIO (power), R2 GNDIO (power), R3 GNDIO (power), T1 GNDIO (power), T15 GNDIO (power)
part A text: BANK A; BANK B
part B text: BANK C; BANK D
part C text: BANK E; BANK F
part D text: BANK G; BANK H
part E text: BANK I; BANK J
part F text: BANK K; BANK L
part G text: BANK M; BANK N
part H text: BANK O; BANK P
part I text: BANK Q; BANK R
part J text: BANK S; BANK T
part K text: BANK U; BANK V
part L text: BANK W; BANK X
part M text: BANK Y; BANK Z
part N text: BANK AA; BANK BB
part O text: BANK CC; BANK DD
part P text: BANK EE; BANK FF

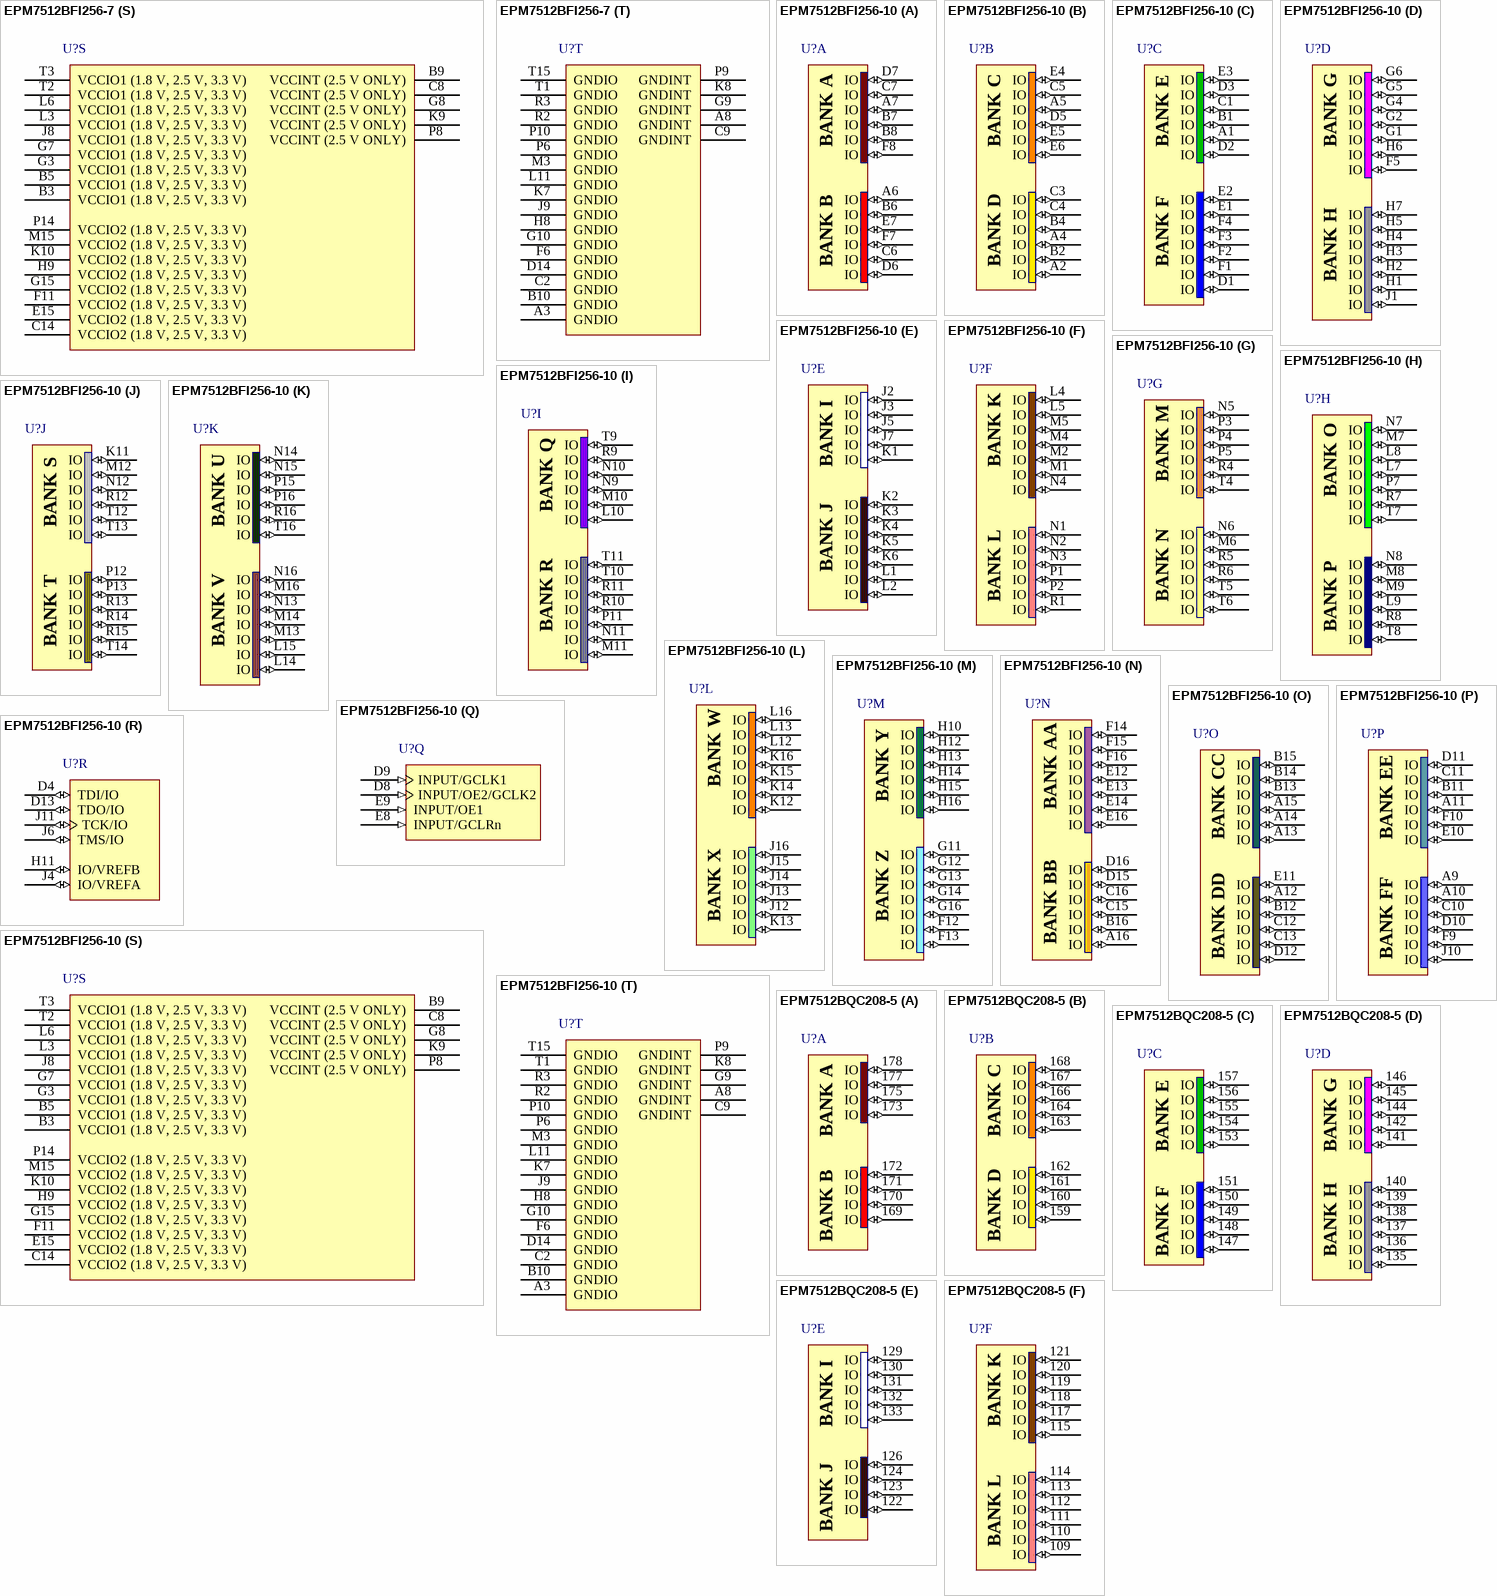
[diagram p41: symbols EPM7512BFI256-7 to EPM7512BQC208-5]

## EPM7512BFI256-7
designator U?
Max 7000B 2.5V CPLD, 512 Macrocells, 256-Pin FBGA, Speed Grade 7, Industrial Grade; Published: 17-Sep-2003; LatestRevisionDate: 13-Apr-2006; LatestRevisionNote: IPC-7351 Footprint Added.; DatasheetVersion: ver3.4, Sep-2003; PackageVersion: ver14.3, Jul-2006; PackageReference: FBGA256; Publisher: Altium Limited; PackageDescription: 256-Ball FineLine Ball Grid Array (FBGA256) - Option 1; Code_JEDEC: MS-034-AAF-1; Code_IPC: BGA100P16X16-256; ComponentLink1Description: Manufacturer Link; ComponentLink1URL: http://www.altera.com/products/devices/max7k/m7k-index.html; ComponentLink2Description: Datasheet; ComponentLink2URL: http://www.altera.com/literature/ds/m7000b.pdf; ComponentLink3Description: Packaging Specification; ComponentLink3URL: http://www.altera.com/literature/ds/dspkg.pdf
footprint FBGA256 (BGA, 256-Leads, Body 17x17mm, Pitch 1mm)
3D model EPM7512B-FBGA256 (256-Ball FineLine Ball Grid Array (FBGA256) - Option 1)
signal-integrity model 7kb (MAX 7000B)
part A pins: A6 IO (io), A7 IO (io), B6 IO (io), B7 IO (io), B8 IO (io), C6 IO (io), C7 IO (io), D6 IO (io), D7 IO (io), E7 IO (io), F7 IO (io), F8 IO (io)
part B pins: A2 IO (io), A4 IO (io), A5 IO (io), B2 IO (io), B4 IO (io), C3 IO (io), C4 IO (io), C5 IO (io), D5 IO (io), E4 IO (io), E5 IO (io), E6 IO (io)
part C pins: A1 IO (io), B1 IO (io), C1 IO (io), D1 IO (io), D2 IO (io), D3 IO (io), E1 IO (io), E2 IO (io), E3 IO (io), F1 IO (io), F2 IO (io), F3 IO (io), F4 IO (io)
part D pins: F5 IO (io), G1 IO (io), G2 IO (io), G4 IO (io), G5 IO (io), G6 IO (io), H1 IO (io), H2 IO (io), H3 IO (io), H4 IO (io), H5 IO (io), H6 IO (io), H7 IO (io), J1 IO (io)
part E pins: J2 IO (io), J3 IO (io), J5 IO (io), J7 IO (io), K1 IO (io), K2 IO (io), K3 IO (io), K4 IO (io), K5 IO (io), K6 IO (io), L1 IO (io), L2 IO (io)
part F pins: L4 IO (io), L5 IO (io), M1 IO (io), M2 IO (io), M4 IO (io), M5 IO (io), N1 IO (io), N2 IO (io), N3 IO (io), N4 IO (io), P1 IO (io), P2 IO (io), R1 IO (io)
part G pins: M6 IO (io), N5 IO (io), N6 IO (io), P3 IO (io), P4 IO (io), P5 IO (io), R4 IO (io), R5 IO (io), R6 IO (io), T4 IO (io), T5 IO (io), T6 IO (io)
part H pins: L7 IO (io), L8 IO (io), L9 IO (io), M7 IO (io), M8 IO (io), M9 IO (io), N7 IO (io), N8 IO (io), P7 IO (io), R7 IO (io), R8 IO (io), T7 IO (io), T8 IO (io)
part I pins: L10 IO (io), M10 IO (io), M11 IO (io), N9 IO (io), N10 IO (io), N11 IO (io), P11 IO (io), R9 IO (io), R10 IO (io), R11 IO (io), T9 IO (io), T10 IO (io), T11 IO (io)
part J pins: K11 IO (io), M12 IO (io), N12 IO (io), P12 IO (io), P13 IO (io), R12 IO (io), R13 IO (io), R14 IO (io), R15 IO (io), T12 IO (io), T13 IO (io), T14 IO (io)
part K pins: L14 IO (io), L15 IO (io), M13 IO (io), M14 IO (io), M16 IO (io), N13 IO (io), N14 IO (io), N15 IO (io), N16 IO (io), P15 IO (io), P16 IO (io), R16 IO (io), T16 IO (io)
part L pins: J12 IO (io), J13 IO (io), J14 IO (io), J15 IO (io), J16 IO (io), K12 IO (io), K13 IO (io), K14 IO (io), K15 IO (io), K16 IO (io), L12 IO (io), L13 IO (io), L16 IO (io)
part M pins: F12 IO (io), F13 IO (io), G11 IO (io), G12 IO (io), G13 IO (io), G14 IO (io), G16 IO (io), H10 IO (io), H12 IO (io), H13 IO (io), H14 IO (io), H15 IO (io), H16 IO (io)
part N pins: A16 IO (io), B16 IO (io), C15 IO (io), C16 IO (io), D15 IO (io), D16 IO (io), E12 IO (io), E13 IO (io), E14 IO (io), E16 IO (io), F14 IO (io), F15 IO (io), F16 IO (io)
part O pins: A12 IO (io), A13 IO (io), A14 IO (io), A15 IO (io), B12 IO (io), B13 IO (io), B14 IO (io), B15 IO (io), C12 IO (io), C13 IO (io), D12 IO (io), E11 IO (io)
part P pins: A9 IO (io), A10 IO (io), A11 IO (io), B11 IO (io), C10 IO (io), C11 IO (io), D10 IO (io), D11 IO (io), E10 IO (io), F9 IO (io), F10 IO (io), J10 IO (io)
part Q pins: D8 INPUT/OE2/GCLK2 (in), D9 INPUT/GCLK1 (in), E8 INPUT/GCLRn (in), E9 INPUT/OE1 (in)
part R pins: D4 TDI/IO (io), D13 TDO/IO (io), H11 IO/VREFB (io), J4 IO/VREFA (io), J6 TMS/IO (io), J11 TCK/IO (io)
part S pins: B3 VCCIO1 (1.8 V, 2.5 V, 3.3 V) (power), B5 VCCIO1 (1.8 V, 2.5 V, 3.3 V) (power), B9 VCCINT (2.5 V ONLY) (power), C8 VCCINT (2.5 V ONLY) (power), C14 VCCIO2 (1.8 V, 2.5 V, 3.3 V) (power), E15 VCCIO2 (1.8 V, 2.5 V, 3.3 V) (power), F11 VCCIO2 (1.8 V, 2.5 V, 3.3 V) (power), G3 VCCIO1 (1.8 V, 2.5 V, 3.3 V) (power), G7 VCCIO1 (1.8 V, 2.5 V, 3.3 V) (power), G8 VCCINT (2.5 V ONLY) (power), G15 VCCIO2 (1.8 V, 2.5 V, 3.3 V) (power), H9 VCCIO2 (1.8 V, 2.5 V, 3.3 V) (power), J8 VCCIO1 (1.8 V, 2.5 V, 3.3 V) (power), K9 VCCINT (2.5 V ONLY) (power), K10 VCCIO2 (1.8 V, 2.5 V, 3.3 V) (power), L3 VCCIO1 (1.8 V, 2.5 V, 3.3 V) (power), L6 VCCIO1 (1.8 V, 2.5 V, 3.3 V) (power), M15 VCCIO2 (1.8 V, 2.5 V, 3.3 V) (power), P8 VCCINT (2.5 V ONLY) (power), P14 VCCIO2 (1.8 V, 2.5 V, 3.3 V) (power), T2 VCCIO1 (1.8 V, 2.5 V, 3.3 V) (power), T3 VCCIO1 (1.8 V, 2.5 V, 3.3 V) (power)
part T pins: A3 GNDIO (power), A8 GNDINT (power), B10 GNDIO (power), C2 GNDIO (power), C9 GNDINT (power), D14 GNDIO (power), F6 GNDIO (power), G9 GNDINT (power), G10 GNDIO (power), H8 GNDIO (power), J9 GNDIO (power), K7 GNDIO (power), K8 GNDINT (power), L11 GNDIO (power), M3 GNDIO (power), P6 GNDIO (power), P9 GNDINT (power), P10 GNDIO (power), R2 GNDIO (power), R3 GNDIO (power), T1 GNDIO (power), T15 GNDIO (power)
part A text: BANK A; BANK B
part B text: BANK C; BANK D
part C text: BANK E; BANK F
part D text: BANK G; BANK H
part E text: BANK I; BANK J
part F text: BANK K; BANK L
part G text: BANK M; BANK N
part H text: BANK O; BANK P
part I text: BANK Q; BANK R
part J text: BANK S; BANK T
part K text: BANK U; BANK V
part L text: BANK W; BANK X
part M text: BANK Y; BANK Z
part N text: BANK AA; BANK BB
part O text: BANK CC; BANK DD
part P text: BANK EE; BANK FF

## EPM7512BFI256-10
designator U?
Max 7000B 2.5V CPLD, 512 Macrocells, 256-Pin FBGA, Speed Grade 10, Industrial Grade; Published: 13-Apr-2006; DatasheetVersion: ver3.5, Sep-2005; PackageVersion: ver14.3, Jul-2006; PackageReference: FBGA256; Publisher: Altium Limited; PackageDescription: 256-Ball FineLine Ball Grid Array (FBGA256) - Option 1; Code_JEDEC: MS-034-AAF-1; Code_IPC: BGA100P16X16-256; ComponentLink1Description: Manufacturer Link; ComponentLink1URL: http://www.altera.com/products/devices/max7k/m7k-index.html; ComponentLink2Description: Datasheet; ComponentLink2URL: http://www.altera.com/literature/ds/m7000b.pdf; ComponentLink3Description: Packaging Specification; ComponentLink3URL: http://www.altera.com/literature/ds/dspkg.pdf
footprint FBGA256 (BGA, 256-Leads, Body 17x17mm, Pitch 1mm)
3D model EPM7512B-FBGA256 (256-Ball FineLine Ball Grid Array (FBGA256) - Option 1)
signal-integrity model 7kb (MAX 7000B)
part A pins: A6 IO (io), A7 IO (io), B6 IO (io), B7 IO (io), B8 IO (io), C6 IO (io), C7 IO (io), D6 IO (io), D7 IO (io), E7 IO (io), F7 IO (io), F8 IO (io)
part B pins: A2 IO (io), A4 IO (io), A5 IO (io), B2 IO (io), B4 IO (io), C3 IO (io), C4 IO (io), C5 IO (io), D5 IO (io), E4 IO (io), E5 IO (io), E6 IO (io)
part C pins: A1 IO (io), B1 IO (io), C1 IO (io), D1 IO (io), D2 IO (io), D3 IO (io), E1 IO (io), E2 IO (io), E3 IO (io), F1 IO (io), F2 IO (io), F3 IO (io), F4 IO (io)
part D pins: F5 IO (io), G1 IO (io), G2 IO (io), G4 IO (io), G5 IO (io), G6 IO (io), H1 IO (io), H2 IO (io), H3 IO (io), H4 IO (io), H5 IO (io), H6 IO (io), H7 IO (io), J1 IO (io)
part E pins: J2 IO (io), J3 IO (io), J5 IO (io), J7 IO (io), K1 IO (io), K2 IO (io), K3 IO (io), K4 IO (io), K5 IO (io), K6 IO (io), L1 IO (io), L2 IO (io)
part F pins: L4 IO (io), L5 IO (io), M1 IO (io), M2 IO (io), M4 IO (io), M5 IO (io), N1 IO (io), N2 IO (io), N3 IO (io), N4 IO (io), P1 IO (io), P2 IO (io), R1 IO (io)
part G pins: M6 IO (io), N5 IO (io), N6 IO (io), P3 IO (io), P4 IO (io), P5 IO (io), R4 IO (io), R5 IO (io), R6 IO (io), T4 IO (io), T5 IO (io), T6 IO (io)
part H pins: L7 IO (io), L8 IO (io), L9 IO (io), M7 IO (io), M8 IO (io), M9 IO (io), N7 IO (io), N8 IO (io), P7 IO (io), R7 IO (io), R8 IO (io), T7 IO (io), T8 IO (io)
part I pins: L10 IO (io), M10 IO (io), M11 IO (io), N9 IO (io), N10 IO (io), N11 IO (io), P11 IO (io), R9 IO (io), R10 IO (io), R11 IO (io), T9 IO (io), T10 IO (io), T11 IO (io)
part J pins: K11 IO (io), M12 IO (io), N12 IO (io), P12 IO (io), P13 IO (io), R12 IO (io), R13 IO (io), R14 IO (io), R15 IO (io), T12 IO (io), T13 IO (io), T14 IO (io)
part K pins: L14 IO (io), L15 IO (io), M13 IO (io), M14 IO (io), M16 IO (io), N13 IO (io), N14 IO (io), N15 IO (io), N16 IO (io), P15 IO (io), P16 IO (io), R16 IO (io), T16 IO (io)
part L pins: J12 IO (io), J13 IO (io), J14 IO (io), J15 IO (io), J16 IO (io), K12 IO (io), K13 IO (io), K14 IO (io), K15 IO (io), K16 IO (io), L12 IO (io), L13 IO (io), L16 IO (io)
part M pins: F12 IO (io), F13 IO (io), G11 IO (io), G12 IO (io), G13 IO (io), G14 IO (io), G16 IO (io), H10 IO (io), H12 IO (io), H13 IO (io), H14 IO (io), H15 IO (io), H16 IO (io)
part N pins: A16 IO (io), B16 IO (io), C15 IO (io), C16 IO (io), D15 IO (io), D16 IO (io), E12 IO (io), E13 IO (io), E14 IO (io), E16 IO (io), F14 IO (io), F15 IO (io), F16 IO (io)
part O pins: A12 IO (io), A13 IO (io), A14 IO (io), A15 IO (io), B12 IO (io), B13 IO (io), B14 IO (io), B15 IO (io), C12 IO (io), C13 IO (io), D12 IO (io), E11 IO (io)
part P pins: A9 IO (io), A10 IO (io), A11 IO (io), B11 IO (io), C10 IO (io), C11 IO (io), D10 IO (io), D11 IO (io), E10 IO (io), F9 IO (io), F10 IO (io), J10 IO (io)
part Q pins: D8 INPUT/OE2/GCLK2 (in), D9 INPUT/GCLK1 (in), E8 INPUT/GCLRn (in), E9 INPUT/OE1 (in)
part R pins: D4 TDI/IO (io), D13 TDO/IO (io), H11 IO/VREFB (io), J4 IO/VREFA (io), J6 TMS/IO (io), J11 TCK/IO (io)
part S pins: B3 VCCIO1 (1.8 V, 2.5 V, 3.3 V) (power), B5 VCCIO1 (1.8 V, 2.5 V, 3.3 V) (power), B9 VCCINT (2.5 V ONLY) (power), C8 VCCINT (2.5 V ONLY) (power), C14 VCCIO2 (1.8 V, 2.5 V, 3.3 V) (power), E15 VCCIO2 (1.8 V, 2.5 V, 3.3 V) (power), F11 VCCIO2 (1.8 V, 2.5 V, 3.3 V) (power), G3 VCCIO1 (1.8 V, 2.5 V, 3.3 V) (power), G7 VCCIO1 (1.8 V, 2.5 V, 3.3 V) (power), G8 VCCINT (2.5 V ONLY) (power), G15 VCCIO2 (1.8 V, 2.5 V, 3.3 V) (power), H9 VCCIO2 (1.8 V, 2.5 V, 3.3 V) (power), J8 VCCIO1 (1.8 V, 2.5 V, 3.3 V) (power), K9 VCCINT (2.5 V ONLY) (power), K10 VCCIO2 (1.8 V, 2.5 V, 3.3 V) (power), L3 VCCIO1 (1.8 V, 2.5 V, 3.3 V) (power), L6 VCCIO1 (1.8 V, 2.5 V, 3.3 V) (power), M15 VCCIO2 (1.8 V, 2.5 V, 3.3 V) (power), P8 VCCINT (2.5 V ONLY) (power), P14 VCCIO2 (1.8 V, 2.5 V, 3.3 V) (power), T2 VCCIO1 (1.8 V, 2.5 V, 3.3 V) (power), T3 VCCIO1 (1.8 V, 2.5 V, 3.3 V) (power)
part T pins: A3 GNDIO (power), A8 GNDINT (power), B10 GNDIO (power), C2 GNDIO (power), C9 GNDINT (power), D14 GNDIO (power), F6 GNDIO (power), G9 GNDINT (power), G10 GNDIO (power), H8 GNDIO (power), J9 GNDIO (power), K7 GNDIO (power), K8 GNDINT (power), L11 GNDIO (power), M3 GNDIO (power), P6 GNDIO (power), P9 GNDINT (power), P10 GNDIO (power), R2 GNDIO (power), R3 GNDIO (power), T1 GNDIO (power), T15 GNDIO (power)
part A text: BANK A; BANK B
part B text: BANK C; BANK D
part C text: BANK E; BANK F
part D text: BANK G; BANK H
part E text: BANK I; BANK J
part F text: BANK K; BANK L
part G text: BANK M; BANK N
part H text: BANK O; BANK P
part I text: BANK Q; BANK R
part J text: BANK S; BANK T
part K text: BANK U; BANK V
part L text: BANK W; BANK X
part M text: BANK Y; BANK Z
part N text: BANK AA; BANK BB
part O text: BANK CC; BANK DD
part P text: BANK EE; BANK FF

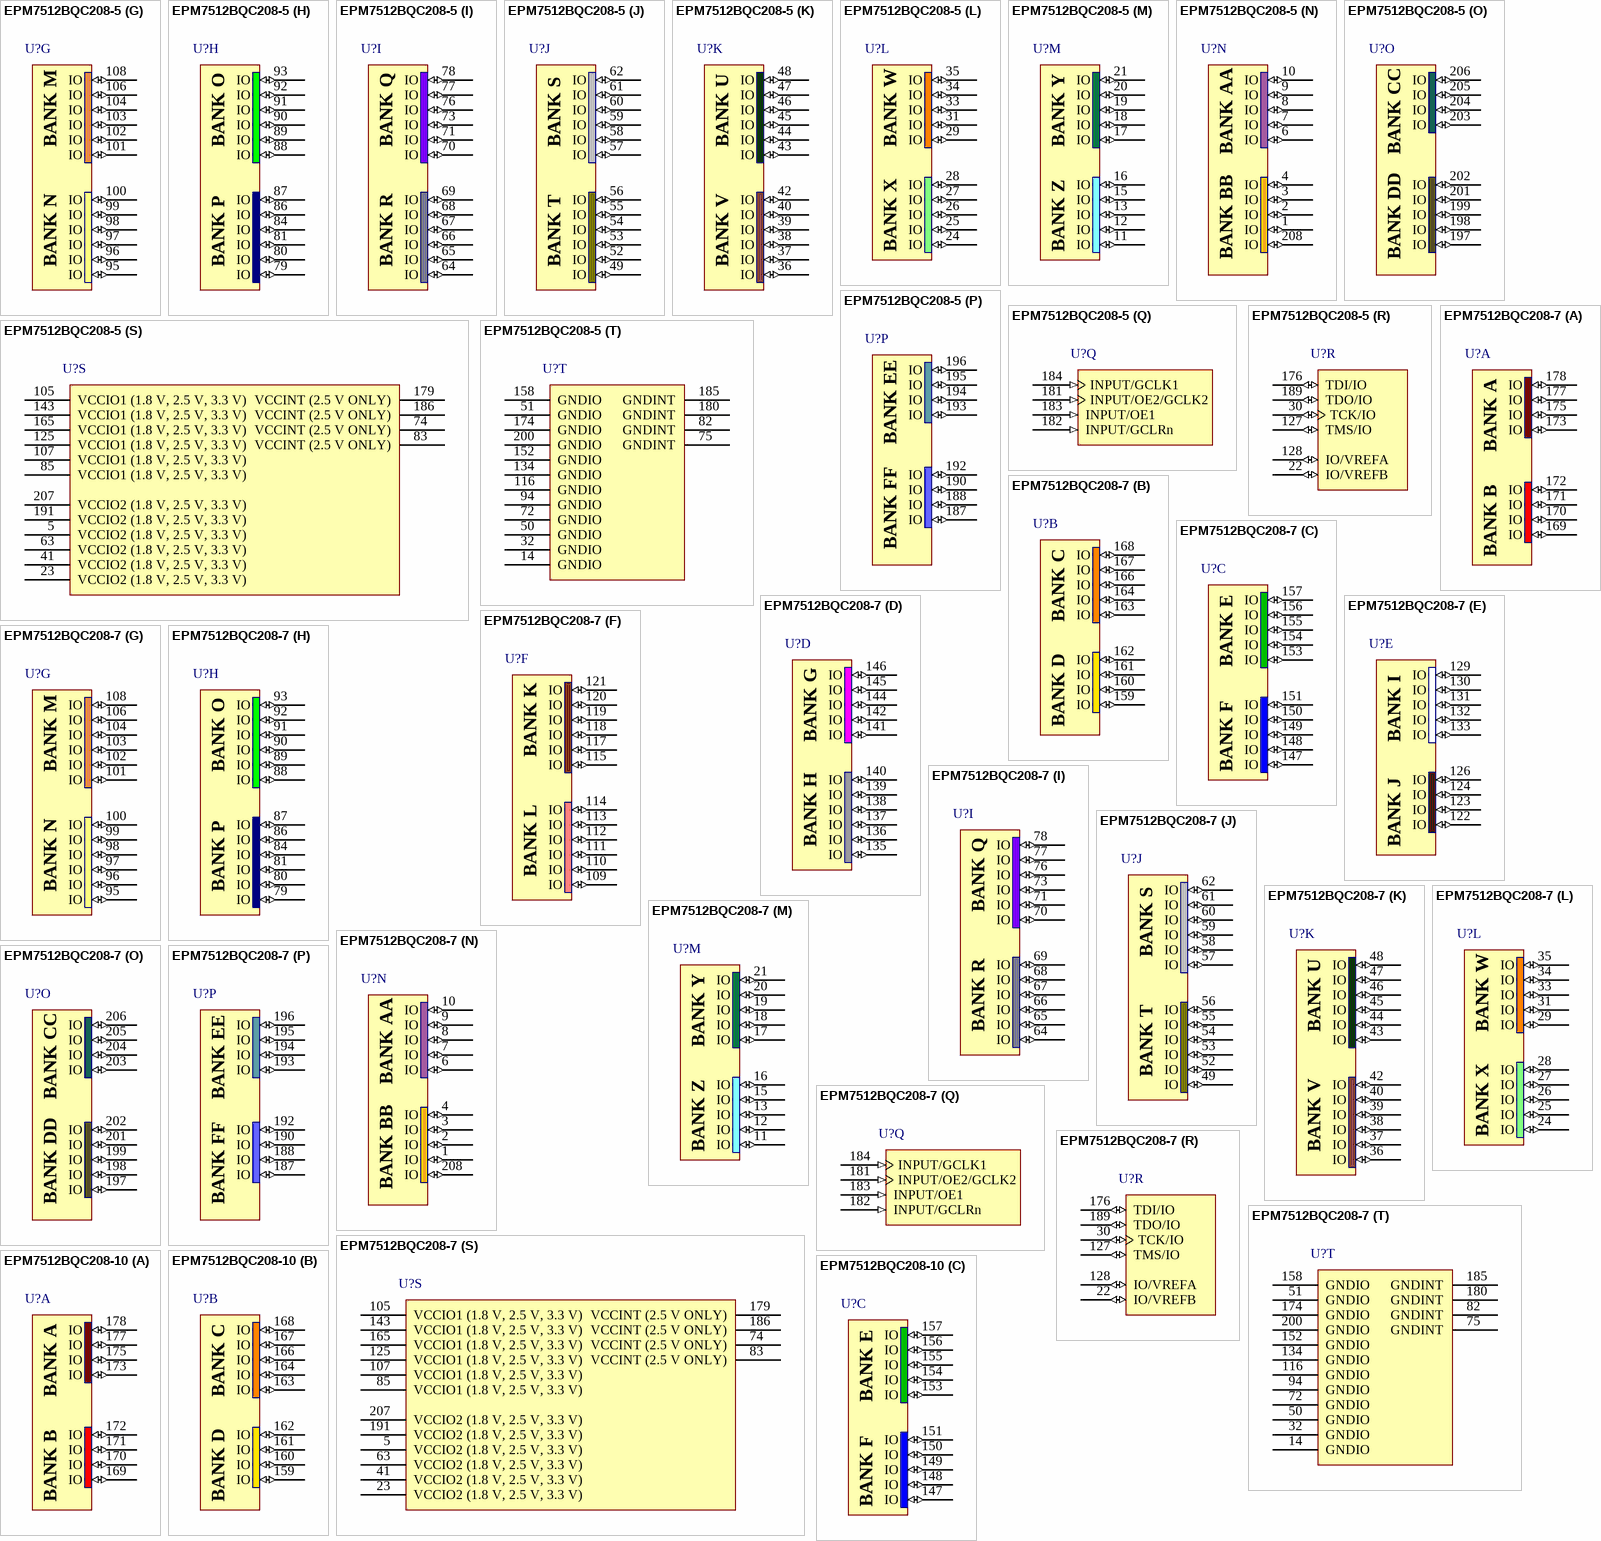
[diagram p42: symbols EPM7512BQC208-5 to EPM7512BQC208-10]

## EPM7512BQC208-5
designator U?
Max 7000B 2.5V CPLD, 512 Macrocells, 208-Pin PQFP, Speed Grade 5, Commercial Grade; Published: 17-Sep-2003; LatestRevisionDate: 13-Apr-2006; LatestRevisionNote: IPC-7351 Footprint Added.; DatasheetVersion: ver3.5, Sep-2005; PackageVersion: ver14.3, Jul-2006; PackageReference: PQFP208; Publisher: Altium Limited; PackageDescription: 208-Pin Plastic Quad Flat Pack (PQFP208); Code_JEDEC: MS-029-FA-1; ComponentLink1Description: Manufacturer Link; ComponentLink1URL: http://www.altera.com/products/devices/max7k/m7k-index.html; ComponentLink2Description: Datasheet; ComponentLink2URL: http://www.altera.com/literature/ds/m7000b.pdf; ComponentLink3Description: Packaging Specification; ComponentLink3URL: http://www.altera.com/literature/ds/dspkg.pdf
footprint PQFP208_N (Shrink QFP, 208-Leads, Body 28x28mm, Pitch 0.5mm, IPC Medium Density)
footprint PQFP208_L (Shrink QFP, 208-Leads, Body 28x28mm, Pitch 0.5mm, IPC High Density)
footprint PQFP208_M (Shrink QFP, 208-Leads, Body 28x28mm, Pitch 0.5mm, IPC Low Density)
3D model EPM7512B-PQFP208 (208-Pin Plastic Quad Flat Pack (PQFP208))
signal-integrity model 7kb (MAX 7000B)
part A pins: 169 IO (io), 170 IO (io), 171 IO (io), 172 IO (io), 173 IO (io), 175 IO (io), 177 IO (io), 178 IO (io)
part B pins: 159 IO (io), 160 IO (io), 161 IO (io), 162 IO (io), 163 IO (io), 164 IO (io), 166 IO (io), 167 IO (io), 168 IO (io)
part C pins: 147 IO (io), 148 IO (io), 149 IO (io), 150 IO (io), 151 IO (io), 153 IO (io), 154 IO (io), 155 IO (io), 156 IO (io), 157 IO (io)
part D pins: 135 IO (io), 136 IO (io), 137 IO (io), 138 IO (io), 139 IO (io), 140 IO (io), 141 IO (io), 142 IO (io), 144 IO (io), 145 IO (io), 146 IO (io)
part E pins: 122 IO (io), 123 IO (io), 124 IO (io), 126 IO (io), 129 IO (io), 130 IO (io), 131 IO (io), 132 IO (io), 133 IO (io)
part F pins: 109 IO (io), 110 IO (io), 111 IO (io), 112 IO (io), 113 IO (io), 114 IO (io), 115 IO (io), 117 IO (io), 118 IO (io), 119 IO (io), 120 IO (io), 121 IO (io)
part G pins: 95 IO (io), 96 IO (io), 97 IO (io), 98 IO (io), 99 IO (io), 100 IO (io), 101 IO (io), 102 IO (io), 103 IO (io), 104 IO (io), 106 IO (io), 108 IO (io)
part H pins: 79 IO (io), 80 IO (io), 81 IO (io), 84 IO (io), 86 IO (io), 87 IO (io), 88 IO (io), 89 IO (io), 90 IO (io), 91 IO (io), 92 IO (io), 93 IO (io)
part I pins: 64 IO (io), 65 IO (io), 66 IO (io), 67 IO (io), 68 IO (io), 69 IO (io), 70 IO (io), 71 IO (io), 73 IO (io), 76 IO (io), 77 IO (io), 78 IO (io)
part J pins: 49 IO (io), 52 IO (io), 53 IO (io), 54 IO (io), 55 IO (io), 56 IO (io), 57 IO (io), 58 IO (io), 59 IO (io), 60 IO (io), 61 IO (io), 62 IO (io)
part K pins: 36 IO (io), 37 IO (io), 38 IO (io), 39 IO (io), 40 IO (io), 42 IO (io), 43 IO (io), 44 IO (io), 45 IO (io), 46 IO (io), 47 IO (io), 48 IO (io)
part L pins: 24 IO (io), 25 IO (io), 26 IO (io), 27 IO (io), 28 IO (io), 29 IO (io), 31 IO (io), 33 IO (io), 34 IO (io), 35 IO (io)
part M pins: 11 IO (io), 12 IO (io), 13 IO (io), 15 IO (io), 16 IO (io), 17 IO (io), 18 IO (io), 19 IO (io), 20 IO (io), 21 IO (io)
part N pins: 1 IO (io), 2 IO (io), 3 IO (io), 4 IO (io), 6 IO (io), 7 IO (io), 8 IO (io), 9 IO (io), 10 IO (io), 208 IO (io)
part O pins: 197 IO (io), 198 IO (io), 199 IO (io), 201 IO (io), 202 IO (io), 203 IO (io), 204 IO (io), 205 IO (io), 206 IO (io)
part P pins: 187 IO (io), 188 IO (io), 190 IO (io), 192 IO (io), 193 IO (io), 194 IO (io), 195 IO (io), 196 IO (io)
part Q pins: 181 INPUT/OE2/GCLK2 (in), 182 INPUT/GCLRn (in), 183 INPUT/OE1 (in), 184 INPUT/GCLK1 (in)
part R pins: 22 IO/VREFB (io), 30 TCK/IO (io), 127 TMS/IO (io), 128 IO/VREFA (io), 176 TDI/IO (io), 189 TDO/IO (io)
part S pins: 5 VCCIO2 (1.8 V, 2.5 V, 3.3 V) (power), 23 VCCIO2 (1.8 V, 2.5 V, 3.3 V) (power), 41 VCCIO2 (1.8 V, 2.5 V, 3.3 V) (power), 63 VCCIO2 (1.8 V, 2.5 V, 3.3 V) (power), 74 VCCINT (2.5 V ONLY) (power), 83 VCCINT (2.5 V ONLY) (power), 85 VCCIO1 (1.8 V, 2.5 V, 3.3 V) (power), 105 VCCIO1 (1.8 V, 2.5 V, 3.3 V) (power), 107 VCCIO1 (1.8 V, 2.5 V, 3.3 V) (power), 125 VCCIO1 (1.8 V, 2.5 V, 3.3 V) (power), 143 VCCIO1 (1.8 V, 2.5 V, 3.3 V) (power), 165 VCCIO1 (1.8 V, 2.5 V, 3.3 V) (power), 179 VCCINT (2.5 V ONLY) (power), 186 VCCINT (2.5 V ONLY) (power), 191 VCCIO2 (1.8 V, 2.5 V, 3.3 V) (power), 207 VCCIO2 (1.8 V, 2.5 V, 3.3 V) (power)
part T pins: 14 GNDIO (power), 32 GNDIO (power), 50 GNDIO (power), 51 GNDIO (power), 72 GNDIO (power), 75 GNDINT (power), 82 GNDINT (power), 94 GNDIO (power), 116 GNDIO (power), 134 GNDIO (power), 152 GNDIO (power), 158 GNDIO (power), 174 GNDIO (power), 180 GNDINT (power), 185 GNDINT (power), 200 GNDIO (power)
part A text: BANK A; BANK B
part B text: BANK C; BANK D
part C text: BANK E; BANK F
part D text: BANK G; BANK H
part E text: BANK I; BANK J
part F text: BANK K; BANK L
part G text: BANK M; BANK N
part H text: BANK O; BANK P
part I text: BANK Q; BANK R
part J text: BANK S; BANK T
part K text: BANK U; BANK V
part L text: BANK W; BANK X
part M text: BANK Y; BANK Z
part N text: BANK AA; BANK BB
part O text: BANK CC; BANK DD
part P text: BANK EE; BANK FF

## EPM7512BQC208-7
designator U?
Max 7000B 2.5V CPLD, 512 Macrocells, 208-Pin PQFP, Speed Grade 7, Commercial Grade; Published: 23-Sep-2002; LatestRevisionDate: 13-Apr-2006; LatestRevisionNote: IPC-7351 Footprint Added.; DatasheetVersion: ver3.5, Sep-2005; PackageVersion: ver14.3, Jul-2006; PackageReference: PQFP208; Publisher: Altium Limited; PackageDescription: 208-Pin Plastic Quad Flat Pack (PQFP208); Code_JEDEC: MS-029-FA-1; ComponentLink1Description: Manufacturer Link; ComponentLink1URL: http://www.altera.com/products/devices/max7k/m7k-index.html; ComponentLink2Description: Datasheet; ComponentLink2URL: http://www.altera.com/literature/ds/m7000b.pdf; ComponentLink3Description: Packaging Specification; ComponentLink3URL: http://www.altera.com/literature/ds/dspkg.pdf
footprint PQFP208_N (Shrink QFP, 208-Leads, Body 28x28mm, Pitch 0.5mm, IPC Medium Density)
footprint PQFP208_L (Shrink QFP, 208-Leads, Body 28x28mm, Pitch 0.5mm, IPC High Density)
footprint PQFP208_M (Shrink QFP, 208-Leads, Body 28x28mm, Pitch 0.5mm, IPC Low Density)
3D model EPM7512B-PQFP208 (208-Pin Plastic Quad Flat Pack (PQFP208))
signal-integrity model 7kb (MAX 7000B)
part A pins: 169 IO (io), 170 IO (io), 171 IO (io), 172 IO (io), 173 IO (io), 175 IO (io), 177 IO (io), 178 IO (io)
part B pins: 159 IO (io), 160 IO (io), 161 IO (io), 162 IO (io), 163 IO (io), 164 IO (io), 166 IO (io), 167 IO (io), 168 IO (io)
part C pins: 147 IO (io), 148 IO (io), 149 IO (io), 150 IO (io), 151 IO (io), 153 IO (io), 154 IO (io), 155 IO (io), 156 IO (io), 157 IO (io)
part D pins: 135 IO (io), 136 IO (io), 137 IO (io), 138 IO (io), 139 IO (io), 140 IO (io), 141 IO (io), 142 IO (io), 144 IO (io), 145 IO (io), 146 IO (io)
part E pins: 122 IO (io), 123 IO (io), 124 IO (io), 126 IO (io), 129 IO (io), 130 IO (io), 131 IO (io), 132 IO (io), 133 IO (io)
part F pins: 109 IO (io), 110 IO (io), 111 IO (io), 112 IO (io), 113 IO (io), 114 IO (io), 115 IO (io), 117 IO (io), 118 IO (io), 119 IO (io), 120 IO (io), 121 IO (io)
part G pins: 95 IO (io), 96 IO (io), 97 IO (io), 98 IO (io), 99 IO (io), 100 IO (io), 101 IO (io), 102 IO (io), 103 IO (io), 104 IO (io), 106 IO (io), 108 IO (io)
part H pins: 79 IO (io), 80 IO (io), 81 IO (io), 84 IO (io), 86 IO (io), 87 IO (io), 88 IO (io), 89 IO (io), 90 IO (io), 91 IO (io), 92 IO (io), 93 IO (io)
part I pins: 64 IO (io), 65 IO (io), 66 IO (io), 67 IO (io), 68 IO (io), 69 IO (io), 70 IO (io), 71 IO (io), 73 IO (io), 76 IO (io), 77 IO (io), 78 IO (io)
part J pins: 49 IO (io), 52 IO (io), 53 IO (io), 54 IO (io), 55 IO (io), 56 IO (io), 57 IO (io), 58 IO (io), 59 IO (io), 60 IO (io), 61 IO (io), 62 IO (io)
part K pins: 36 IO (io), 37 IO (io), 38 IO (io), 39 IO (io), 40 IO (io), 42 IO (io), 43 IO (io), 44 IO (io), 45 IO (io), 46 IO (io), 47 IO (io), 48 IO (io)
part L pins: 24 IO (io), 25 IO (io), 26 IO (io), 27 IO (io), 28 IO (io), 29 IO (io), 31 IO (io), 33 IO (io), 34 IO (io), 35 IO (io)
part M pins: 11 IO (io), 12 IO (io), 13 IO (io), 15 IO (io), 16 IO (io), 17 IO (io), 18 IO (io), 19 IO (io), 20 IO (io), 21 IO (io)
part N pins: 1 IO (io), 2 IO (io), 3 IO (io), 4 IO (io), 6 IO (io), 7 IO (io), 8 IO (io), 9 IO (io), 10 IO (io), 208 IO (io)
part O pins: 197 IO (io), 198 IO (io), 199 IO (io), 201 IO (io), 202 IO (io), 203 IO (io), 204 IO (io), 205 IO (io), 206 IO (io)
part P pins: 187 IO (io), 188 IO (io), 190 IO (io), 192 IO (io), 193 IO (io), 194 IO (io), 195 IO (io), 196 IO (io)
part Q pins: 181 INPUT/OE2/GCLK2 (in), 182 INPUT/GCLRn (in), 183 INPUT/OE1 (in), 184 INPUT/GCLK1 (in)
part R pins: 22 IO/VREFB (io), 30 TCK/IO (io), 127 TMS/IO (io), 128 IO/VREFA (io), 176 TDI/IO (io), 189 TDO/IO (io)
part S pins: 5 VCCIO2 (1.8 V, 2.5 V, 3.3 V) (power), 23 VCCIO2 (1.8 V, 2.5 V, 3.3 V) (power), 41 VCCIO2 (1.8 V, 2.5 V, 3.3 V) (power), 63 VCCIO2 (1.8 V, 2.5 V, 3.3 V) (power), 74 VCCINT (2.5 V ONLY) (power), 83 VCCINT (2.5 V ONLY) (power), 85 VCCIO1 (1.8 V, 2.5 V, 3.3 V) (power), 105 VCCIO1 (1.8 V, 2.5 V, 3.3 V) (power), 107 VCCIO1 (1.8 V, 2.5 V, 3.3 V) (power), 125 VCCIO1 (1.8 V, 2.5 V, 3.3 V) (power), 143 VCCIO1 (1.8 V, 2.5 V, 3.3 V) (power), 165 VCCIO1 (1.8 V, 2.5 V, 3.3 V) (power), 179 VCCINT (2.5 V ONLY) (power), 186 VCCINT (2.5 V ONLY) (power), 191 VCCIO2 (1.8 V, 2.5 V, 3.3 V) (power), 207 VCCIO2 (1.8 V, 2.5 V, 3.3 V) (power)
part T pins: 14 GNDIO (power), 32 GNDIO (power), 50 GNDIO (power), 51 GNDIO (power), 72 GNDIO (power), 75 GNDINT (power), 82 GNDINT (power), 94 GNDIO (power), 116 GNDIO (power), 134 GNDIO (power), 152 GNDIO (power), 158 GNDIO (power), 174 GNDIO (power), 180 GNDINT (power), 185 GNDINT (power), 200 GNDIO (power)
part A text: BANK A; BANK B
part B text: BANK C; BANK D
part C text: BANK E; BANK F
part D text: BANK G; BANK H
part E text: BANK I; BANK J
part F text: BANK K; BANK L
part G text: BANK M; BANK N
part H text: BANK O; BANK P
part I text: BANK Q; BANK R
part J text: BANK S; BANK T
part K text: BANK U; BANK V
part L text: BANK W; BANK X
part M text: BANK Y; BANK Z
part N text: BANK AA; BANK BB
part O text: BANK CC; BANK DD
part P text: BANK EE; BANK FF

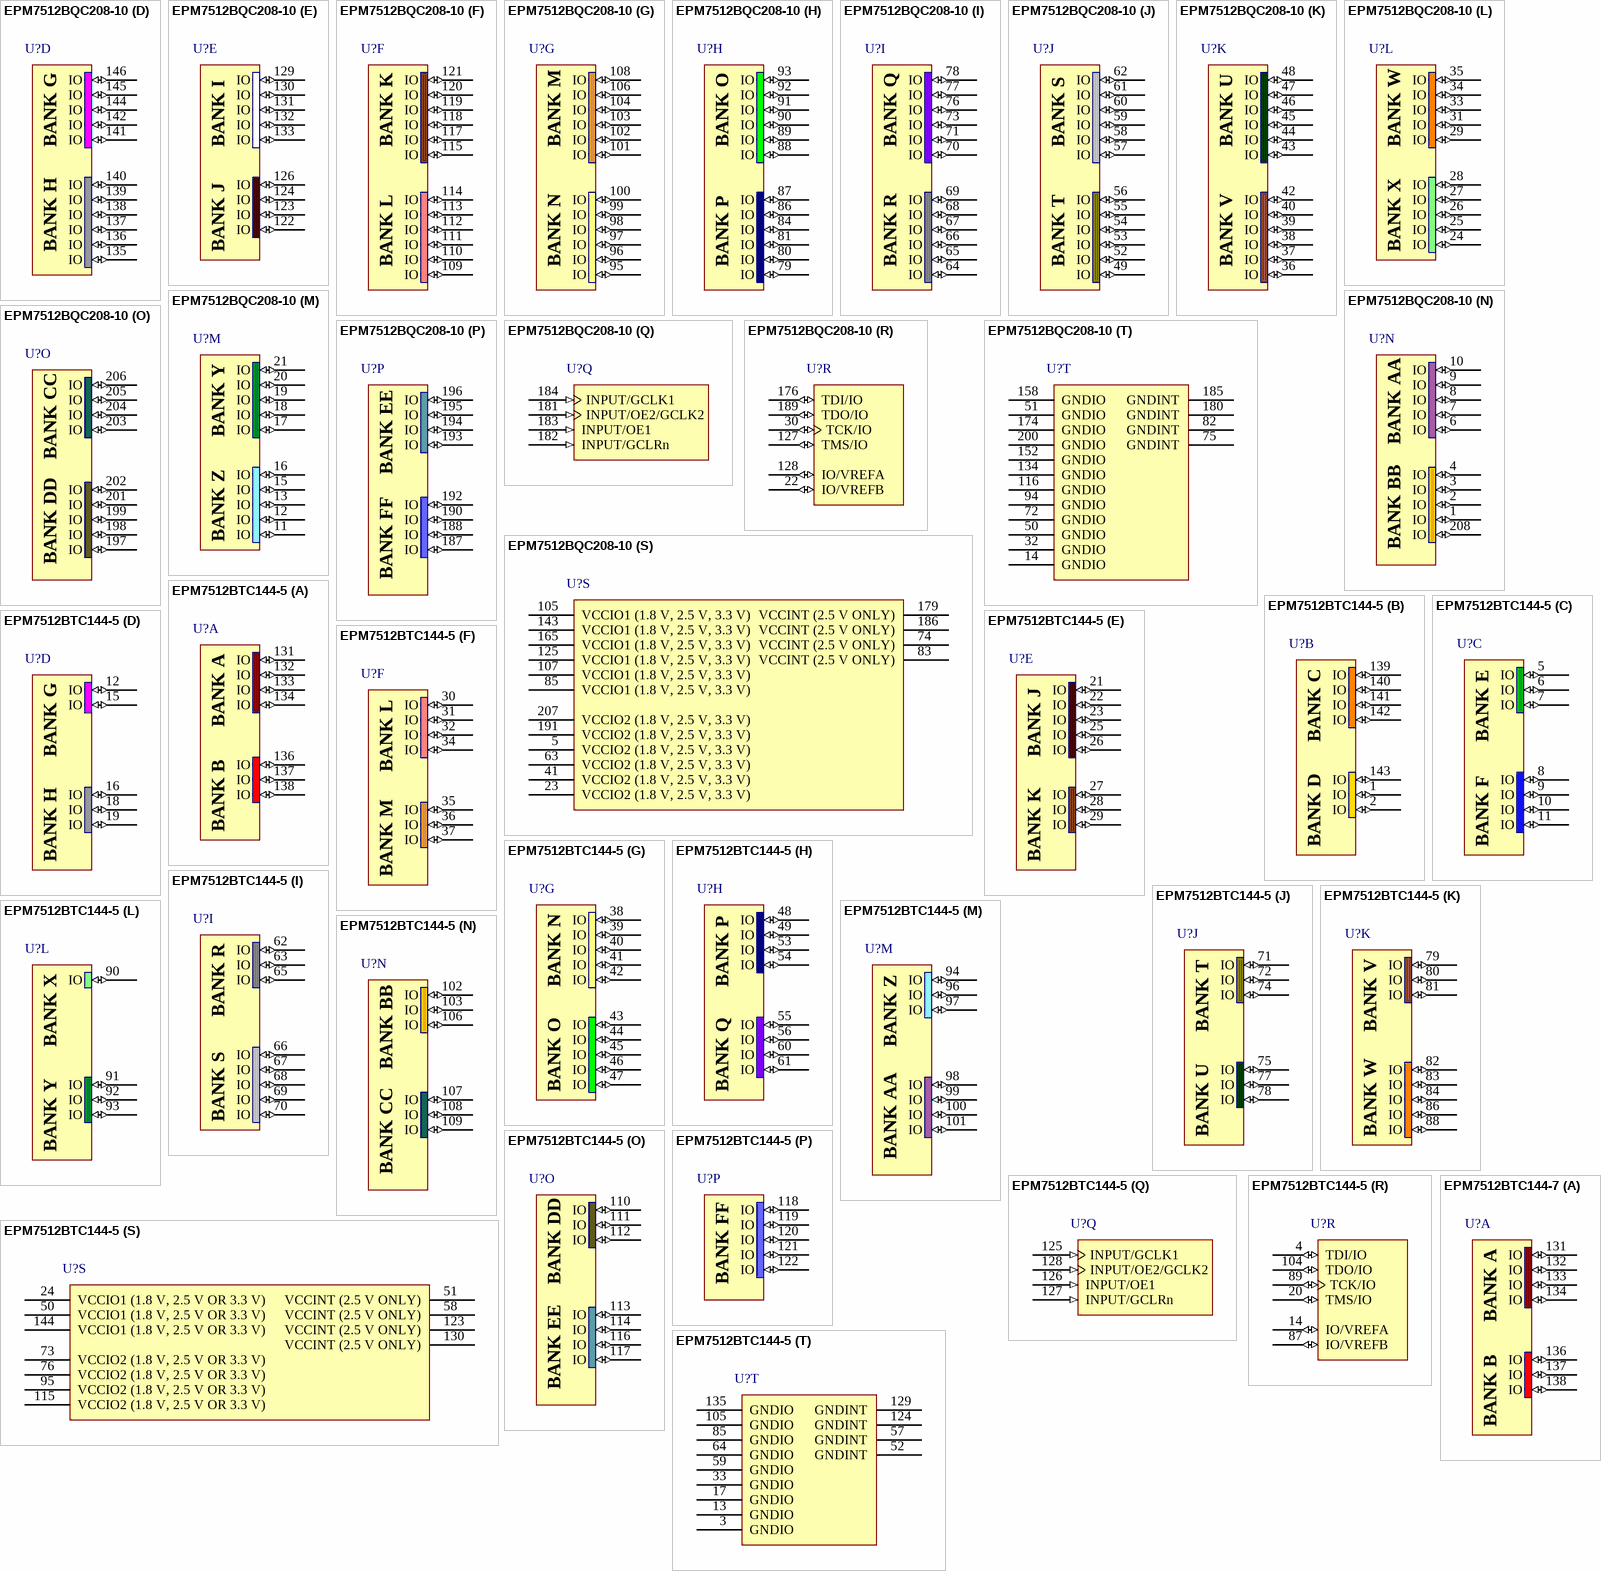
[diagram p43: symbols EPM7512BQC208-10 to EPM7512BTC144-7]